# Altium schematic symbol library Controller-RK3562.SCHLIB: 538 symbols (part 3 of 5)
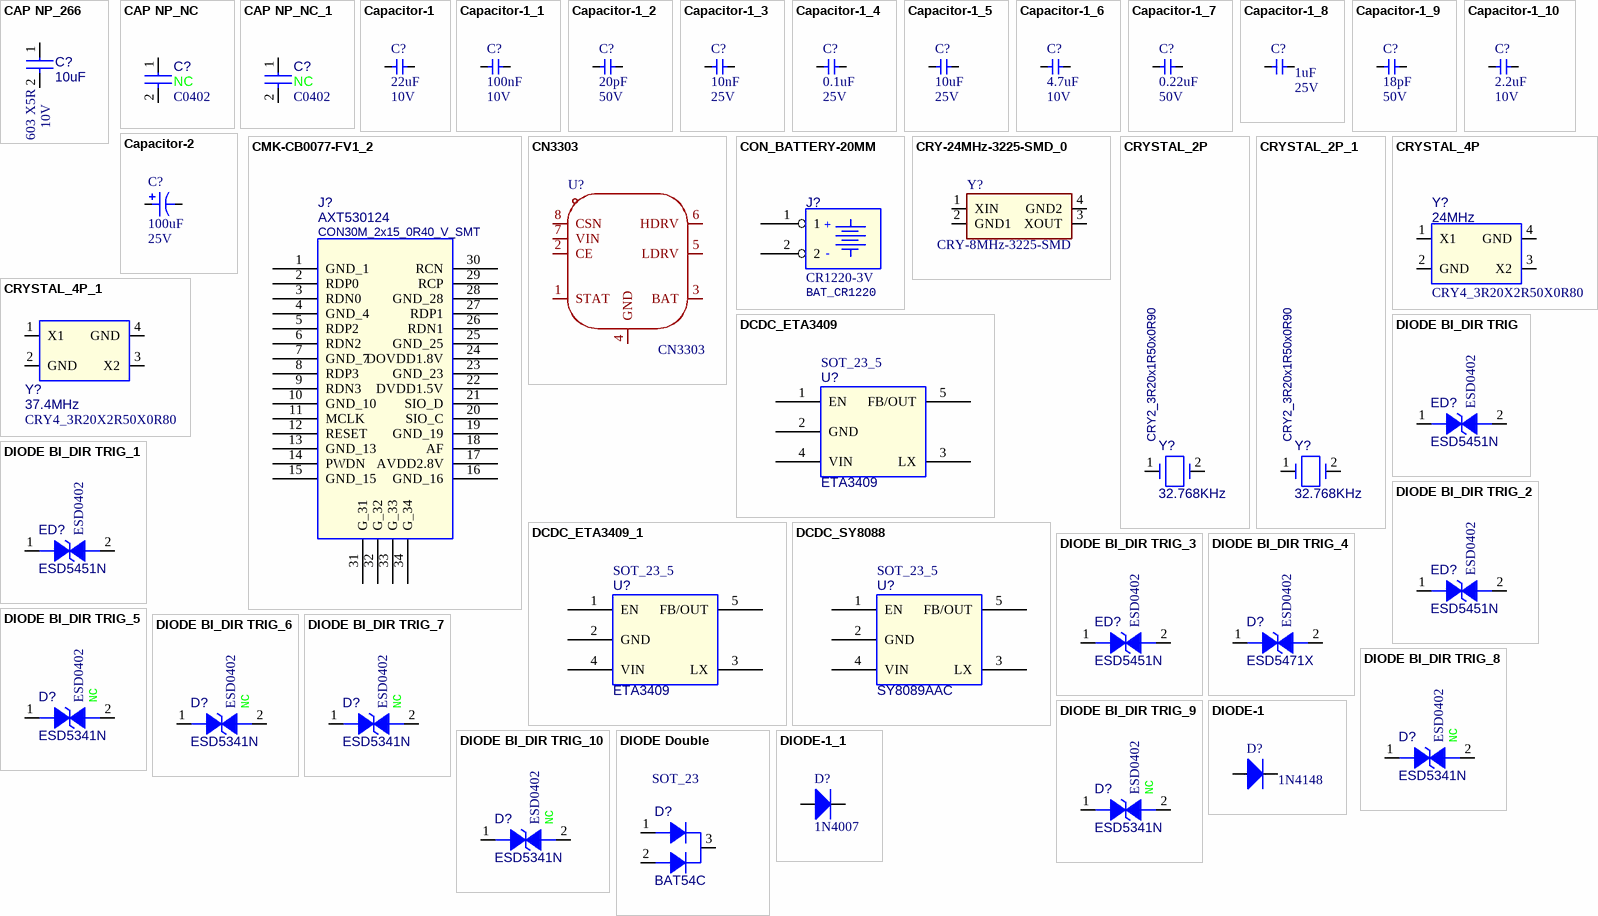
[diagram p22: symbols CAP NP_266 to DIODE-1_1]

## Capacitor-1_5
designator C?, comment 10uF  VoltageRate: 25V
ManufacturingPartNumber: *; Manufacturer: *; SupplierPartNumber: *; Supplier: *
footprint CAP-0402
footprint CAP-0805-S
footprint CAP-0603
pins: 1, 2

## Capacitor-1_6
designator C?, comment 4.7uF  VoltageRate: 10V
ManufacturingPartNumber: *; Manufacturer: *; SupplierPartNumber: *; Supplier: *
footprint CAP-0402
footprint CAP-0805-S
footprint CAP-0603
pins: 1, 2

## Capacitor-1_7
designator C?, comment 0.22uF  VoltageRate: 50V
ManufacturingPartNumber: *; Manufacturer: *; SupplierPartNumber: *; Supplier: *
footprint CAP-0402
footprint CAP-0805-S
footprint CAP-0603
pins: 1, 2

## Capacitor-1_8
designator C?, comment 1uF  VoltageRate: 25V
ManufacturingPartNumber: *; Manufacturer: *; SupplierPartNumber: *; Supplier: *
footprint CAP-0402
footprint CAP-0805-S
footprint CAP-0603
pins: 1, 2

## Capacitor-1_9
designator C?, comment 18pF  VoltageRate: 50V
ManufacturingPartNumber: *; Manufacturer: *; SupplierPartNumber: *; Supplier: *
footprint CAP-0402
footprint CAP-0805-S
footprint CAP-0603
pins: 1, 2

## Capacitor-1_10
designator C?, comment 2.2uF  VoltageRate: 10V
ManufacturingPartNumber: *; Manufacturer: *; SupplierPartNumber: *; Supplier: *
footprint CAP-0402
footprint CAP-0805-S
footprint CAP-0603
pins: 1, 2

## Capacitor-2
designator C?, comment 100uF  VoltageRate: 25V
ManufacturingPartNumber: *; Manufacturer: *; SupplierPartNumber: *; Supplier: *
footprint CAP-SMD_BD6.3-L6.6-W6.6-FD
footprint CAP-0805-S
footprint CAP-0603
pins: 1, 2

## CMK-CB0077-FV1_2
designator J?, comment AXT530124  PCB Footprint: CON30M_2x15_0R40_V_SMT
Rockchips内部通用双排30PIN for MIPI CSI摄像头接口；; Part Reference: J4500; Manufacturer: Panasonic; Priority: A; Value: AXT530124; RK PN: AXT530124; Part Type: Camera Connector; Manufacturer Part Number: AXT530124; Created by: JJJ
footprint CONN-SMD_30P-P0.40_AXT530124
footprint CON30M_2x15_0R40_V_SMT
pins: 1 GND_1, 2 RDP0, 3 RDN0, 4 GND_4, 5 RDP2, 6 RDN2, 7 GND_7, 8 RDP3, 9 RDN3, 10 GND_10, 11 MCLK, 12 RESET, 13 GND_13, 14 PWDN, 15 GND_15, 16 GND_16, 17 AVDD2.8V, 18 AF, 19 GND_19, 20 SIO_C, 21 SIO_D, 22 DVDD1.5V, 23 GND_23, 24 DOVDD1.8V, 25 GND_25, 26 RDN1, 27 RDP1, 28 GND_28, 29 RCP, 30 RCN, 31 G_31, 32 G_32, 33 G_33, 34 G_34

## CN3303
designator U?
ManufacturingPartNumber: *; Manufacturer: *; SupplierPartNumber: *; Supplier: *; VoltageRate: *
footprint SOP-8_L4.9-W3.9-P1.27-LS6.0-BL-1
pins: 1 STAT, 2 CE, 3 BAT, 4 GND, 5 LDRV, 6 HDRV, 7 VIN, 8 CSN

## CON_BATTERY-20MM
designator J?, comment CR1220-3V  PCB Footprint: BAT_CR1220
Part Reference: J2200; Value: CR1220-3V
footprint BATTERY-20MM
footprint BAT_CR1220
pins: 1, 2
text: +; -

## CRY-24MHz-3225-SMD_0
designator Y?, comment CRY-8MHz-3225-SMD
ManufacturingPartNumber: *; Manufacturer: *; SupplierPartNumber: *; Supplier: *; VoltageRate: *
footprint X4B250_320H120_SMD
pins: 1 XIN, 2 GND1, 3 XOUT, 4 GND2

## CRYSTAL_2P
designator Y?, comment 32.768KHz  PCB Footprint: CRY2_3R20x1R50x0R90
无源晶振，32.768KHz,±20ppm，12.5pF; Part Reference: Y2100; Manufacturer: TKD(泰晶); RK PN: SF-3215; Priority: A; Value: 32.768KHz; Part Type: CRYSTAL; Manufacturer PN: SF-3215; Created by: YWQ
footprint CRY2_3R20x1R50x0R90
pins: 1, 2

## CRYSTAL_2P_1
designator Y?, comment 32.768KHz  PCB Footprint: CRY2_3R20x1R50x0R90
无源晶振，32.768KHz,±20ppm，12.5pF; Part Reference: Y2200; Manufacturer: TKD(泰晶); RK PN: SF-3215; Priority: A; Value: 32.768KHz; Part Type: CRYSTAL; Manufacturer PN: SF-3215; Created by: YWQ
footprint CRY2_3R20x1R50x0R90
pins: 1, 2

## CRYSTAL_4P
designator Y?, comment 24MHz  PCB Footprint: CRY4_3R20X2R50X0R80
无源晶振，24M，3225,±10ppm，8pF，Hosonic; Part Reference: Y1200; Manufacturer PN: E3SB24.0000F08E11; Manufacturer: Hosonic(鸿星电子); Priority: A; Value: 24MHz; Created by: JJJ; Part Type: CRYSTAL; RK PN: E3SB24.0000F08E11; ClassName: RK
footprint CRY4_3R20X2R50X0R80
footprint CRY4_3R20X2R50X0R80
pins: 1 X1, 2 GND (power), 3 X2, 4 GND (power)

## CRYSTAL_4P_1
designator Y?, comment 37.4MHz  PCB Footprint: CRY4_3R20X2R50X0R80
无源晶振，26M，3225,±10ppm，8pF，Hosonic; Part Reference: Y6100; Manufacturer: Hosonic(鸿星电子); Manufacturer PN: HCX-3SB26.0000; Value: 26MHz; RK PN: 26MHz_Hosonic; Priority: A; Part Type: CRYSTAL; Created by: JJJ
footprint CRY4_3R20X2R50X0R80
footprint CRY4_3R20X2R50X0R80
pins: 1 X1, 2 GND (power), 3 X2, 4 GND (power)

## DCDC_ETA3409
designator U?, comment ETA3409  PCB Footprint: SOT_23_5
3A, 1MHz Synchronous Buck Converter with 7.3V OVP; Part Reference: U2200; Manufacturer: ETA(钰泰); Priority: A; RK PN: 906000413; Value: ETA3409; Created by: JJJ; Manufacturer PN: ETA3409; Part Type: DCDC
footprint SOT_23_5
pins: 1 EN, 2 GND, 3 LX, 4 VIN, 5 FB/OUT

## DCDC_ETA3409_1
designator U?, comment ETA3409  PCB Footprint: SOT_23_5
3A, 1MHz Synchronous Buck Converter with 7.3V OVP; Part Reference: U2201; Manufacturer: ETA(钰泰); RK PN: 906000413; Priority: A; Value: ETA3409; Part Type: DCDC; Manufacturer PN: ETA3409; Created by: JJJ
footprint SOT_23_5
pins: 1 EN, 2 GND, 3 LX, 4 VIN, 5 FB/OUT

## DCDC_SY8088
designator U?, comment SY8089AAC  PCB Footprint: SOT_23_5
Part Reference: U3002; Manufacturer PN: SY8088AAC; Manufacturer: Silergy（矽力杰）; Priority: A; Value: SY8089AAC; Created by: JJJ; Part Type: DCDC; RK PN: SY8088AAC; ClassName: RK
footprint SOT_23_5
pins: 1 EN, 2 GND, 3 LX, 4 VIN, 5 FB/OUT

## DIODE BI_DIR TRIG
designator ED?, comment ESD5451N  PCB Footprint: ESD0402
1-Line, Bi-directional, Transient Voltage Suppressors.17.5pF.; Part Reference: ED7009; Manufacturer: WillSemi(韦尔半导体); Priority: A; Value: ESD5451N; Created by: JJJ; Manufacturer PN: ESD5451N; Part Type: ESD_TVS; RK PN: ESD5451N
footprint ESD0402
pins: 1, 2

## DIODE BI_DIR TRIG_1
designator ED?, comment ESD5451N  PCB Footprint: ESD0402
1-Line, Bi-directional, Transient Voltage Suppressors.17.5pF.; Part Reference: ED7008; Manufacturer: WillSemi(韦尔半导体); Priority: A; Value: ESD5451N; RK PN: ESD5451N; Part Type: ESD_TVS; Manufacturer PN: ESD5451N; Created by: JJJ
footprint ESD0402
pins: 1, 2

## DIODE BI_DIR TRIG_2
designator ED?, comment ESD5451N  PCB Footprint: ESD0402
1-Line, Bi-directional, Transient Voltage Suppressors.17.5pF.; Part Reference: ED7010; Manufacturer: WillSemi(韦尔半导体); Priority: A; Value: ESD5451N; Created by: JJJ; Manufacturer PN: ESD5451N; Part Type: ESD_TVS; RK PN: ESD5451N
footprint ESD0402
pins: 1, 2

## DIODE BI_DIR TRIG_3
designator ED?, comment ESD5451N  PCB Footprint: ESD0402
1-Line, Bi-directional, Transient Voltage Suppressors.17.5pF.; Part Reference: ED7011; Manufacturer: WillSemi(韦尔半导体); Priority: A; Value: ESD5451N; Created by: JJJ; Manufacturer PN: ESD5451N; Part Type: ESD_TVS; RK PN: ESD5451N
footprint ESD0402
pins: 1, 2

## DIODE BI_DIR TRIG_4
designator D?, comment ESD5471X  PCB Footprint: ESD0402
1-Line, Bi-directional, Transient Voltage Suppressors.9pF.; Part Reference: D4200; Manufacturer: WillSemi(韦尔半导体); Priority: A; Value: ESD5471X; Created by: JJJ; Manufacturer PN: ESD5471X; Part Type: ESD_TVS; RK PN: ESD5471X
footprint ESD0402
pins: 1, 2

## DIODE BI_DIR TRIG_5
designator D?, comment ESD5341N  PCB Footprint: ESD0402  option: NC
1-Line, Bi-directional, Transient Voltage Suppressors.1pF.; Part Reference: D4201; Manufacturer: WillSemi(韦尔半导体); Priority: A; Value: ESD5341N; RK PN: ESD5341N; Part Type: ESD_TVS; Manufacturer PN: ESD5341N; Created by: JJJ
footprint ESD0402
pins: 1, 2

## DIODE BI_DIR TRIG_6
designator D?, comment ESD5341N  PCB Footprint: ESD0402  option: NC
1-Line, Bi-directional, Transient Voltage Suppressors.1pF.; Part Reference: D4202; Manufacturer: WillSemi(韦尔半导体); Priority: A; Value: ESD5341N; RK PN: ESD5341N; Part Type: ESD_TVS; Manufacturer PN: ESD5341N; Created by: JJJ
footprint ESD0402
pins: 1, 2

## DIODE BI_DIR TRIG_7
designator D?, comment ESD5341N  PCB Footprint: ESD0402  option: NC
1-Line, Bi-directional, Transient Voltage Suppressors.1pF.; Part Reference: D4203; Manufacturer: WillSemi(韦尔半导体); Priority: A; Value: ESD5341N; Created by: JJJ; Manufacturer PN: ESD5341N; Part Type: ESD_TVS; RK PN: ESD5341N
footprint ESD0402
pins: 1, 2

## DIODE BI_DIR TRIG_8
designator D?, comment ESD5341N  PCB Footprint: ESD0402  option: NC
1-Line, Bi-directional, Transient Voltage Suppressors.1pF.; Part Reference: D4204; Manufacturer: WillSemi(韦尔半导体); Priority: A; Value: ESD5341N; Created by: JJJ; Manufacturer PN: ESD5341N; Part Type: ESD_TVS; RK PN: ESD5341N
footprint ESD0402
pins: 1, 2

## DIODE BI_DIR TRIG_9
designator D?, comment ESD5341N  PCB Footprint: ESD0402  option: NC
1-Line, Bi-directional, Transient Voltage Suppressors.1pF.; Part Reference: D4205; Manufacturer: WillSemi(韦尔半导体); Priority: A; Value: ESD5341N; Created by: JJJ; Manufacturer PN: ESD5341N; Part Type: ESD_TVS; RK PN: ESD5341N
footprint ESD0402
pins: 1, 2

## DIODE BI_DIR TRIG_10
designator D?, comment ESD5341N  PCB Footprint: ESD0402  option: NC
1-Line, Bi-directional, Transient Voltage Suppressors.1pF.; Part Reference: D4206; Manufacturer: WillSemi(韦尔半导体); Priority: A; Value: ESD5341N; Created by: JJJ; Manufacturer PN: ESD5341N; Part Type: ESD_TVS; RK PN: ESD5341N
footprint ESD0402
pins: 1, 2

## DIODE Double
designator D?, comment BAT54C  PCB Footprint: SOT_23
Dual Schottky barrier，BAT54C SOT-23 Schottky Barrier; Part Reference: D2200; Manufacturer: 长电; Priority: A; Value: BAT54C; RK PN: BAT54C; Part Type: Schottky rectifier; Manufacturer PN: BAT54C; Created by: JJJ
footprint SOT_23
pins: 1 A1, 2 A2, 3 K

## DIODE-1
designator D?, comment 1N4148
ManufacturingPartNumber: *; Manufacturer: *; SupplierPartNumber: *; Supplier: *; VoltageRate: *
footprint SOD123 (SOD123; Chip Diode; Body  2.7 x 1.6 mm (LxW typ))
pins: 1 A, 2 K

## DIODE-1_1
designator D?, comment 1N4007
ManufacturingPartNumber: *; Manufacturer: *; SupplierPartNumber: *; Supplier: *; VoltageRate: *
footprint SOD123 (SOD123; Chip Diode; Body  2.7 x 1.6 mm (LxW typ))
pins: 1 A, 2 K

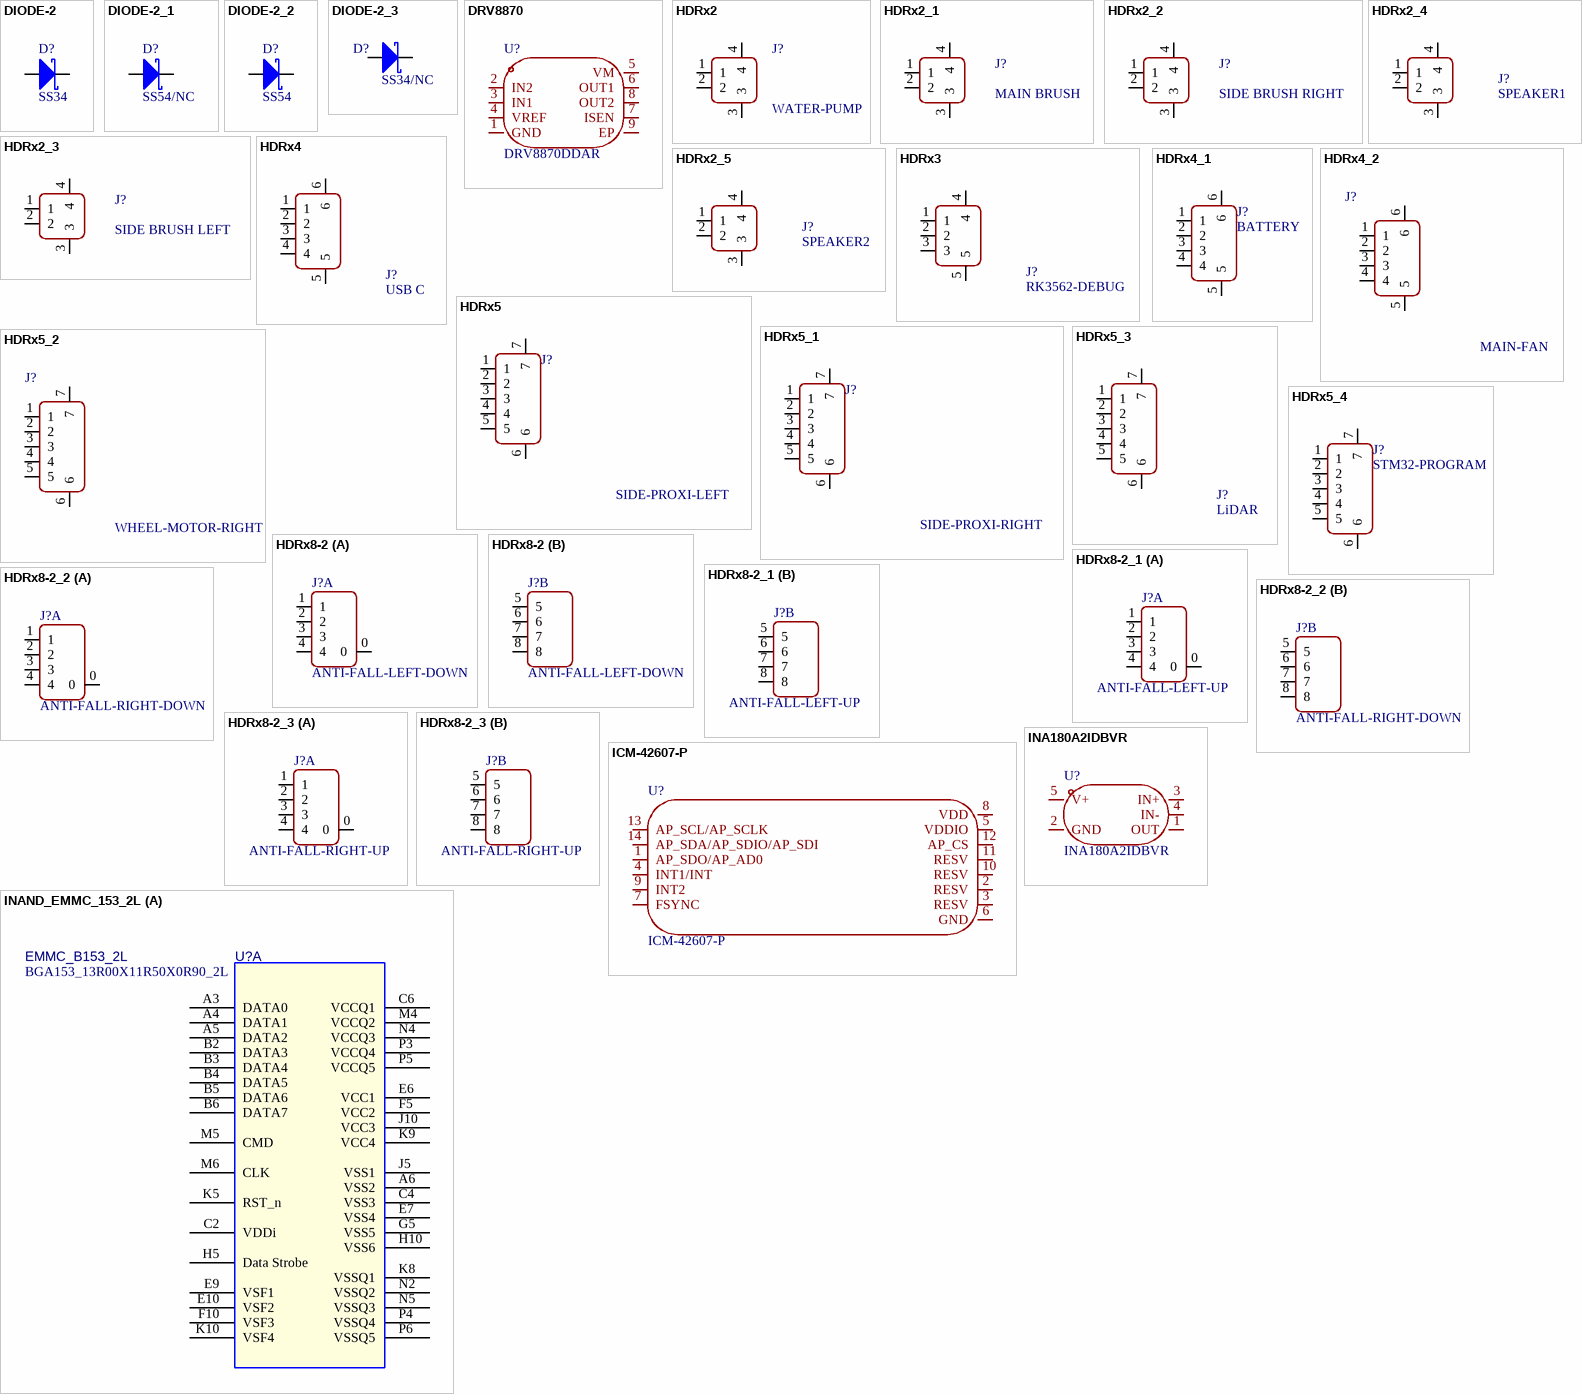
[diagram p8: symbols DIODE-2 to INAND_EMMC_153_2L]

## DIODE-2
designator D?, comment SS34
ManufacturingPartNumber: *; Manufacturer: *; SupplierPartNumber: *; Supplier: *; VoltageRate: *
footprint SMA
pins: 1 A, 2 K

## DIODE-2_1
designator D?, comment SS54/NC
ManufacturingPartNumber: *; Manufacturer: *; SupplierPartNumber: *; Supplier: *; VoltageRate: *
footprint SMB_L4.3-W3.6-LS5.4-RD
pins: 1 A, 2 K

## DIODE-2_2
designator D?, comment SS54
ManufacturingPartNumber: *; Manufacturer: *; SupplierPartNumber: *; Supplier: *; VoltageRate: *
footprint SMB_L4.3-W3.6-LS5.4-RD
pins: 1 A, 2 K

## DIODE-2_3
designator D?, comment SS34/NC
ManufacturingPartNumber: *; Manufacturer: *; SupplierPartNumber: *; Supplier: *; VoltageRate: *
footprint SMA
pins: 1 A, 2 K

## DRV8870
designator U?, comment DRV8870DDAR
ManufacturingPartNumber: *; Manufacturer: *; SupplierPartNumber: *; Supplier: *; VoltageRate: *
footprint HSOP-8_L5.0-W4.0-P1.27-LS6.2-BL-EP
pins: 1 GND, 2 IN2, 3 IN1, 4 VREF, 5 VM, 6 OUT1, 7 ISEN, 8 OUT2, 9 EP

## HDRx2
designator J?, comment WATER-PUMP
ZX-ZH1.5-2PWT; ManufacturingPartNumber: *; Manufacturer: *; SupplierPartNumber: *; Supplier: *; VoltageRate: *
footprint CONN-SMD_2P-P1.50_ZX-ZH1.5-2PWT
pins: 1, 2, 3, 4

## HDRx2_1
designator J?, comment MAIN BRUSH
ZX-ZH1.5-2PWT; ManufacturingPartNumber: *; Manufacturer: *; SupplierPartNumber: *; Supplier: *; VoltageRate: *
footprint CONN-SMD_2P-P2.00_XUNPU_WAFER-PH2.0-2PWB
pins: 1, 2, 3, 4

## HDRx2_2
designator J?, comment SIDE BRUSH RIGHT
ManufacturingPartNumber: *; Manufacturer: *; SupplierPartNumber: *; Supplier: *; VoltageRate: *
footprint CONN-SMD_2P-P1.50_ZX-ZH1.5-2PWT
pins: 1, 2, 3, 4

## HDRx2_3
designator J?, comment SIDE BRUSH LEFT
ManufacturingPartNumber: *; Manufacturer: *; SupplierPartNumber: *; Supplier: *; VoltageRate: *
footprint CONN-SMD_2P-P1.50_ZX-ZH1.5-2PWT
pins: 1, 2, 3, 4

## HDRx2_4
designator J?, comment SPEAKER1
ManufacturingPartNumber: *; Manufacturer: *; SupplierPartNumber: *; Supplier: *; VoltageRate: *
pins: 1, 2, 3, 4

## HDRx2_5
designator J?, comment SPEAKER2
ManufacturingPartNumber: *; Manufacturer: *; SupplierPartNumber: *; Supplier: *; VoltageRate: *
footprint CONN-SMD_2P-P1.00_HX-1.0-2P-WT
pins: 1, 2, 3, 4

## HDRx3
designator J?, comment RK3562-DEBUG
ManufacturingPartNumber: *; Manufacturer: *; SupplierPartNumber: *; Supplier: *; VoltageRate: *
footprint MHDR1X3 (Connector; Header; 3 Position)
pins: 1, 2, 3, 4, 5

## HDRx4
designator J?, comment USB C
ManufacturingPartNumber: *; Manufacturer: *; SupplierPartNumber: *; Supplier: *; VoltageRate: *
footprint CONN-SMD_4P-P2.00_XUNPU_WAFER-PH2.0-4PWB
pins: 1, 2, 3, 4, 5, 6

## HDRx4_1
designator J?, comment BATTERY
ManufacturingPartNumber: *; Manufacturer: *; SupplierPartNumber: *; Supplier: *; VoltageRate: *
footprint CONN-SMD_4P-P2.00_XUNPU_WAFER-PH2.0-4PWB
pins: 1, 2, 3, 4, 5, 6

## HDRx4_2
designator J?, comment MAIN-FAN
ManufacturingPartNumber: *; Manufacturer: *; SupplierPartNumber: *; Supplier: *; VoltageRate: *
footprint CONN-SMD_4P-P2.00_XUNPU_WAFER-PH2.0-4PWB
pins: 1, 2, 3, 4, 5, 6

## HDRx5
designator J?, comment SIDE-PROXI-LEFT
ZX-ZH1.5-5PWT; ManufacturingPartNumber: *; Manufacturer: *; SupplierPartNumber: *; Supplier: *; VoltageRate: *
footprint CONN-SMD_5P-P1.50_ZX-ZH1.5-5PWT
pins: 1, 2, 3, 4, 5, 6, 7

## HDRx5_1
designator J?, comment SIDE-PROXI-RIGHT
ZX-ZH1.5-5PWT; ManufacturingPartNumber: *; Manufacturer: *; SupplierPartNumber: *; Supplier: *; VoltageRate: *
footprint CONN-SMD_5P-P1.50_ZX-ZH1.5-5PWT
pins: 1, 2, 3, 4, 5, 6, 7

## HDRx5_2
designator J?, comment WHEEL-MOTOR-RIGHT
ManufacturingPartNumber: *; Manufacturer: *; SupplierPartNumber: *; Supplier: *; VoltageRate: *
footprint CONN-SMD_5P-P1.50_ZX-ZH1.5-5PWT
pins: 1, 2, 3, 4, 5, 6, 7

## HDRx5_3
designator J?, comment LiDAR
WAFER-GH1.25-5PWB; ManufacturingPartNumber: *; Manufacturer: *; SupplierPartNumber: *; Supplier: *; VoltageRate: *
footprint CONN-SMD_5P-P1.25_XUNPU_WAFER-GH1.25-5PWB
pins: 1, 2, 3, 4, 5, 6, 7

## HDRx5_4
designator J?, comment STM32-PROGRAM
ManufacturingPartNumber: *; Manufacturer: *; SupplierPartNumber: *; Supplier: *; VoltageRate: *
footprint HDR1X5 (Connector; Header; 5 Position)
pins: 1, 2, 3, 4, 5, 6, 7

## HDRx8-2
designator J?, comment ANTI-FALL-LEFT-DOWN
ZX-ZH1.5-8PWT; Manufacturer: *; SupplierPartNumber: *; Supplier: *; VoltageRate: *
footprint CONN-SMD_8P-P1.50_ZX-ZH1.5-8PWT
part A pins: 0, 1, 2, 3, 4
part B pins: 5, 6, 7, 8

## HDRx8-2_1
designator J?, comment ANTI-FALL-LEFT-UP
ZX-ZH1.5-8PWT; Manufacturer: *; SupplierPartNumber: *; Supplier: *; VoltageRate: *
footprint CONN-SMD_8P-P1.50_ZX-ZH1.5-8PWT
part A pins: 0, 1, 2, 3, 4
part B pins: 5, 6, 7, 8

## HDRx8-2_2
designator J?, comment ANTI-FALL-RIGHT-DOWN
ZX-ZH1.5-8PWT; Manufacturer: *; SupplierPartNumber: *; Supplier: *; VoltageRate: *
footprint CONN-SMD_8P-P1.50_ZX-ZH1.5-8PWT
part A pins: 0, 1, 2, 3, 4
part B pins: 5, 6, 7, 8

## HDRx8-2_3
designator J?, comment ANTI-FALL-RIGHT-UP
ZX-ZH1.5-8PWT; Manufacturer: *; SupplierPartNumber: *; Supplier: *; VoltageRate: *
footprint CONN-SMD_8P-P1.50_ZX-ZH1.5-8PWT
part A pins: 0, 1, 2, 3, 4
part B pins: 5, 6, 7, 8

## ICM-42607-P
designator U?
ManufacturingPartNumber: *; Manufacturer: *; SupplierPartNumber: *; Supplier: *; VoltageRate: *
footprint LGA-14_L3.0-W2.5-P0.50-TL_QMI8658A
pins: 1 AP_SDO/AP_AD0, 2 RESV, 3 RESV, 4 INT1/INT, 5 VDDIO, 6 GND, 7 FSYNC, 8 VDD, 9 INT2, 10 RESV, 11 RESV, 12 AP_CS, 13 AP_SCL/AP_SCLK, 14 AP_SDA/AP_SDIO/AP_SDI

## INA180A2IDBVR
designator U?
ManufacturingPartNumber: *; Manufacturer: *; SupplierPartNumber: *; Supplier: *; VoltageRate: *
footprint SOT_23_5
pins: 1 OUT, 2 GND, 3 IN+, 4 IN-, 5 V+

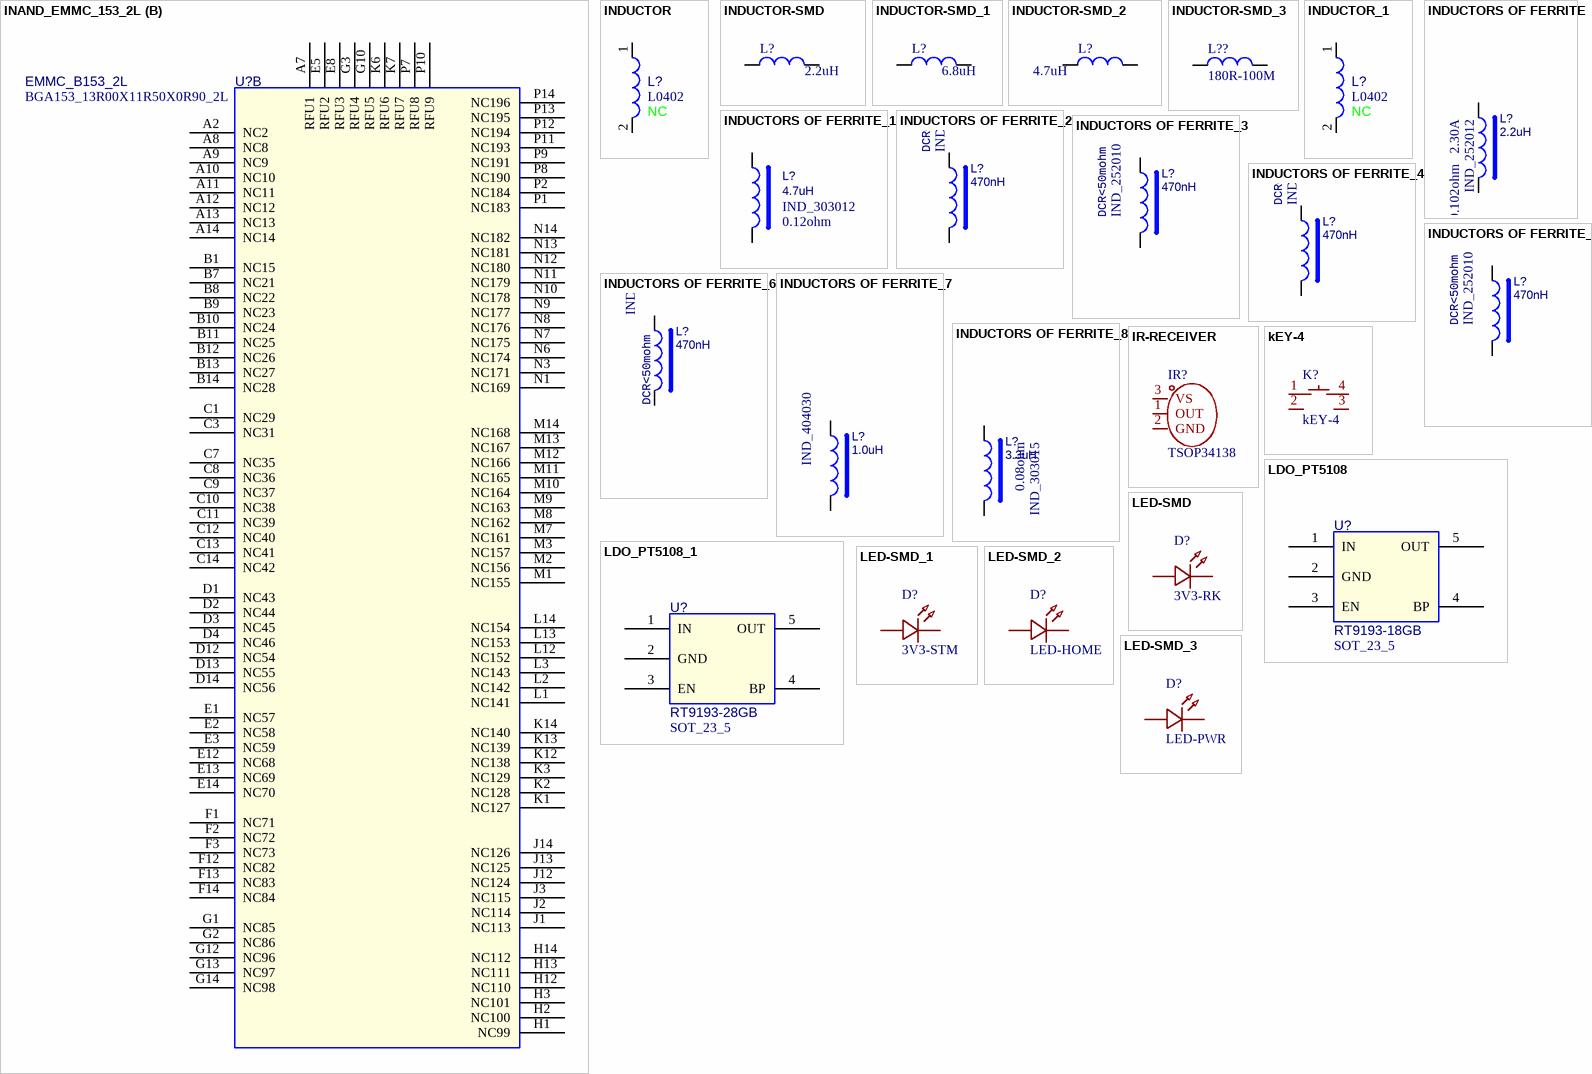
[diagram p9: symbols INAND_EMMC_153_2L to LED-SMD_3]

## INAND_EMMC_153_2L
designator U?, comment EMMC_B153_2L  PCB Footprint: BGA153_13R00X11R50X0R90_2L
EMMC_B153_2L,更好的满足工艺需求，Fanout方式部分走线跨接再球位上，挖除A1\C5球位; Part Reference: U4000; Priority: A; Value: EMMC_B153_2L; Created by: YWQ; Part Type: NAND_FLASH; RK PN: EMMC_B153_2L; ClassName: RK
footprint FBGA-153_L13.0-W11.5-P0.50_KLMAG1JETD-B041
part A pins: A3 DATA0, A4 DATA1, A5 DATA2, A6 VSS2, B2 DATA3, B3 DATA4, B4 DATA5, B5 DATA6, B6 DATA7, C2 VDDi, C4 VSS3, C6 VCCQ1, E6 VCC1, E7 VSS4, E9 VSF1, E10 VSF2, F5 VCC2, F10 VSF3, G5 VSS5, H5 Data Strobe, H10 VSS6, J5 VSS1, J10 VCC3, K5 RST_n, K8 VSSQ1, K9 VCC4, K10 VSF4, M4 VCCQ2, M5 CMD, M6 CLK, N2 VSSQ2, N4 VCCQ3, N5 VSSQ3, P3 VCCQ4, P4 VSSQ4, P5 VCCQ5, P6 VSSQ5
part B pins: A2 NC2, A7 RFU1, A8 NC8, A9 NC9, A10 NC10, A11 NC11, A12 NC12, A13 NC13, A14 NC14, B1 NC15, B7 NC21, B8 NC22, B9 NC23, B10 NC24, B11 NC25, B12 NC26, B13 NC27, B14 NC28, C1 NC29, C3 NC31, C7 NC35, C8 NC36, C9 NC37, C10 NC38, C11 NC39, C12 NC40, C13 NC41, C14 NC42, D1 NC43, D2 NC44, D3 NC45, D4 NC46, D12 NC54, D13 NC55, D14 NC56, E1 NC57, E2 NC58, E3 NC59, E5 RFU2, E8 RFU3, E12 NC68, E13 NC69, E14 NC70, F1 NC71, F2 NC72, F3 NC73, F12 NC82, F13 NC83, F14 NC84, G1 NC85, G2 NC86, G3 RFU4, G10 RFU5, G12 NC96, G13 NC97, G14 NC98, H1 NC99, H2 NC100, H3 NC101, H12 NC110, H13 NC111, H14 NC112, J1 NC113, J2 NC114, J3 NC115, J12 NC124, J13 NC125, J14 NC126, K1 NC127, K2 NC128, K3 NC129, K6 RFU6, K7 RFU7, K12 NC138, K13 NC139, K14 NC140, L1 NC141, L2 NC142, L3 NC143, L12 NC152, L13 NC153, L14 NC154, M1 NC155, M2 NC156, M3 NC157, M7 NC161, M8 NC162, M9 NC163, M10 NC164, M11 NC165, M12 NC166, M13 NC167, M14 NC168, N1 NC169, N3 NC171, N6 NC174, N7 NC175, N8 NC176, N9 NC177, N10 NC178, N11 NC179, N12 NC180, N13 NC181, N14 NC182, P1 NC183, P2 NC184, P7 RFU8, P8 NC190, P9 NC191, P10 RFU9, P11 NC193, P12 NC194, P13 NC195, P14 NC196

## INDUCTOR
designator L?, comment NC  PCB Footprint: L0402
Did Not Place.; Part Reference: L6100; RK PN: DNPL0402; Priority: A; Value: NC; Part Type: IND; Created by: JJJ
footprint L0402 (R0402)
pins: 1, 2

## INDUCTOR-SMD
designator L?, comment 2.2uH
FXL0420-2R2-M; ManufacturingPartNumber: *; Manufacturer: *; SupplierPartNumber: *; Supplier: *; VoltageRate: *
footprint IND-SMD_L4.4-W4.2
pins: 1, 2

## INDUCTOR-SMD_1
designator L?, comment 6.8uH
FXL0630-6R8-M; ManufacturingPartNumber: *; Manufacturer: *; SupplierPartNumber: *; Supplier: *; VoltageRate: *
footprint IND-SMD_L7.0-W6.6
pins: 1, 2

## INDUCTOR-SMD_2
designator L?, comment 4.7uH
FXL0630-4R7-M; ManufacturingPartNumber: *; Manufacturer: *; SupplierPartNumber: *; Supplier: *; VoltageRate: *
footprint IND-SMD_L7.0-W6.6
pins: 1, 2

## INDUCTOR-SMD_3
designator L??, comment 180R-100M
ManufacturingPartNumber: *; Manufacturer: *; SupplierPartNumber: *; Supplier: *; VoltageRate: *
pins: 1, 2

## INDUCTOR_1
designator L?, comment NC  PCB Footprint: L0402
Did Not Place.; Part Reference: L6101; Priority: A; RK PN: DNPL0402; Value: NC; Created by: JJJ; Part Type: IND
footprint L0402 (R0402)
pins: 1, 2

## INDUCTORS OF FERRITE
designator L?, comment 2.2uH  PCB Footprint: IND_252012  Isat: 2.30A  DC Resistor: 0.102ohm
Power Inductor,2.2uH,20%,IND_252012; Part Reference: L3001; Manufacturer PN: VLS252012HBX-2R2M; Manufacturer: TDK; Resonace frequency: 1MHz; Irms: 2.04A; Priority: A; Value: 2.2uH; Created by: JJJ; Tolerance: 20%; Part Type: POWER_IND; RK PN: VLS252012HBX-2R2M; ClassName: RK
footprint IND_252012
pins: 1, 2

## INDUCTORS OF FERRITE_1
designator L?, comment 4.7uH  PCB Footprint: IND_303012  DC Resistor: 0.12ohm
Power Inductor,4.7uH,0.2,IND_303012; Part Reference: L6102; Manufacturer: sunlord; Isat: 0.90A; RK PN: SWPA3012S4R7MT; Priority: A; Tolerance: 20%; Irms: 1.24A; Resonace frequency: 61M; Value: 4.7uH; Part Type: POWER_IND; Manufacturer PN: SWPA3012S4R7MT; Created by: YTL
footprint IND_303015
pins: 1, 2

## INDUCTORS OF FERRITE_2
designator L?, comment 470nH  PCB Footprint: IND_252010  option: DCR<50mohm
Power Inductor,470nH,0.2,IND_252010; Part Reference: L2100; Manufacturer PN: VLS252010HBX-R47M; Manufacturer: TDK; Isat: 4.53A; DC Resistor: 0.035ohm; Resonace frequency: 1MHz; Irms: 3.32A; Tolerance: 20%; Priority: A; Value: 470nH; Created by: CDH; Part Type: POWER_IND; RK PN: VLS252010HBX-R47M
footprint IND_252010
pins: 1, 2

## INDUCTORS OF FERRITE_3
designator L?, comment 470nH  PCB Footprint: IND_252010  option: DCR<50mohm
Power Inductor,470nH,0.2,IND_252010; Part Reference: L2101; Manufacturer PN: VLS252010HBX-R47M; Manufacturer: TDK; Isat: 4.53A; DC Resistor: 0.035ohm; Resonace frequency: 1MHz; Irms: 3.32A; Tolerance: 20%; Priority: A; Value: 470nH; Created by: CDH; Part Type: POWER_IND; RK PN: VLS252010HBX-R47M
footprint IND_252010
pins: 1, 2

## INDUCTORS OF FERRITE_4
designator L?, comment 470nH  PCB Footprint: IND_252010  option: DCR<50mohm
Power Inductor,470nH,0.2,IND_252010; Part Reference: L2102; Manufacturer PN: VLS252010HBX-R47M; Manufacturer: TDK; Isat: 4.53A; DC Resistor: 0.035ohm; Resonace frequency: 1MHz; Irms: 3.32A; Tolerance: 20%; Priority: A; Value: 470nH; Created by: CDH; Part Type: POWER_IND; RK PN: VLS252010HBX-R47M
footprint IND_252010
pins: 1, 2

## INDUCTORS OF FERRITE_5
designator L?, comment 470nH  PCB Footprint: IND_252010  option: DCR<50mohm
Power Inductor,470nH,0.2,IND_252010; Part Reference: L2103; Manufacturer PN: VLS252010HBX-R47M; Manufacturer: TDK; Isat: 4.53A; DC Resistor: 0.035ohm; Resonace frequency: 1MHz; Irms: 3.32A; Tolerance: 20%; Priority: A; Value: 470nH; Created by: CDH; Part Type: POWER_IND; RK PN: VLS252010HBX-R47M
footprint IND_252010
pins: 1, 2

## INDUCTORS OF FERRITE_6
designator L?, comment 470nH  PCB Footprint: IND_252010  option: DCR<50mohm
Power Inductor,470nH,0.2,IND_252010; Part Reference: L2104; Manufacturer: TDK; Isat: 4.53A; DC Resistor: 0.035ohm; RK PN: VLS252010HBX-R47M; Priority: A; Tolerance: 20%; Irms: 3.32A; Resonace frequency: 1MHz; Value: 470nH; Part Type: POWER_IND; Manufacturer PN: VLS252010HBX-R47M; Created by: CDH
footprint IND_252010
pins: 1, 2

## INDUCTORS OF FERRITE_7
designator L?, comment 1.0uH  PCB Footprint: IND_404030
Power Inductor,1.0uH,0.3,IND_404030; Part Reference: L2200; Manufacturer PN: SWPA4030S1R0NT; Manufacturer: sunlord; Isat: 5.26A; DC Resistor: 0.014ohm; Resonace frequency: 70M; Irms: 4.15A; Tolerance: 30%; Priority: A; Value: 1.0uH; Created by: YTL; Part Type: POWER_IND; RK PN: SWPA4030S1R0NT
footprint IND_404030
pins: 1, 2

## INDUCTORS OF FERRITE_8
designator L?, comment 3.3uH  PCB Footprint: IND_303015  DC Resistor: 0.08ohm
Power Inductor,3.3uH,0.2,IND_303015; Part Reference: L2201; Manufacturer PN: SWPA3015S3R3MT; Manufacturer: sunlord; Isat: 1.32A; Resonace frequency: 68M; Irms: 1.36A; Tolerance: 20%; Priority: A; Value: 3.3uH; Created by: YTL; Part Type: POWER_IND; RK PN: SWPA3015S3R3MT
footprint IND_303015
pins: 1, 2

## IR-RECEIVER
designator IR?, comment TSOP34138
ManufacturingPartNumber: *; Manufacturer: *; SupplierPartNumber: *; Supplier: *; VoltageRate: *
footprint SENSOR-TH_TSOP32138
pins: 1 OUT, 2 GND, 3 VS

## kEY-4
designator K?
ManufacturingPartNumber: TS36CA-0.6 250gf 031; Manufacturer: SHOU HAN(首韩); SupplierPartNumber: C2906288; Supplier: LCSC; VoltageRate: *
footprint KEY-SMD_4P-L6.0-W6.0-P4.50-LS9.0
pins: 1, 2, 3, 4

## LDO_PT5108
designator U?, comment RT9193-18GB  PCB Footprint: SOT_23_5
1.8V Output,300mA, Low Dropout, Low Noise Ultra-Fast Without Bypass Capacitor CMOS LDO Regulator; Part Reference: U2202; Manufacturer: Richtek（立錡）; Priority: A; Value: RT9193-18GB; RK PN: RT9193-18GB; Part Type: LDO; Manufacturer PN: RT9193-18GB; Created by: JJJ
footprint SOT_23_5
pins: 1 IN, 2 GND, 3 EN, 4 BP, 5 OUT

## LDO_PT5108_1
designator U?, comment RT9193-28GB  PCB Footprint: SOT_23_5
2.8V Output,300mA, Low Dropout, Low Noise Ultra-Fast Without Bypass Capacitor CMOS LDO Regulator; Part Reference: U2204; Manufacturer: Richtek（立錡）; Priority: A; Value: RT9193-28GB; RK PN: RT9193-28GB; Part Type: LDO; Manufacturer PN: RT9193-28GB; Created by: JJJ
footprint SOT_23_5
pins: 1 IN, 2 GND, 3 EN, 4 BP, 5 OUT

## LED-SMD
designator D?, comment 3V3-RK
ManufacturingPartNumber: *; Manufacturer: *; SupplierPartNumber: *; Supplier: *; VoltageRate: *
footprint LED0603-B
footprint LED0603-G
footprint LED0603-R
pins: 1, 2

## LED-SMD_1
designator D?, comment 3V3-STM
ManufacturingPartNumber: *; Manufacturer: *; SupplierPartNumber: *; Supplier: *; VoltageRate: *
footprint LED0603-B
footprint LED0603-G
footprint LED0603-R
pins: 1, 2

## LED-SMD_2
designator D?, comment LED-HOME
ManufacturingPartNumber: *; Manufacturer: *; SupplierPartNumber: *; Supplier: *; VoltageRate: *
footprint LED0603-B
footprint LED0603-G
footprint LED0603-R
pins: 1, 2

## LED-SMD_3
designator D?, comment LED-PWR
ManufacturingPartNumber: *; Manufacturer: *; SupplierPartNumber: *; Supplier: *; VoltageRate: *
footprint LED0603-B
footprint LED0603-G
footprint LED0603-R
pins: 1, 2

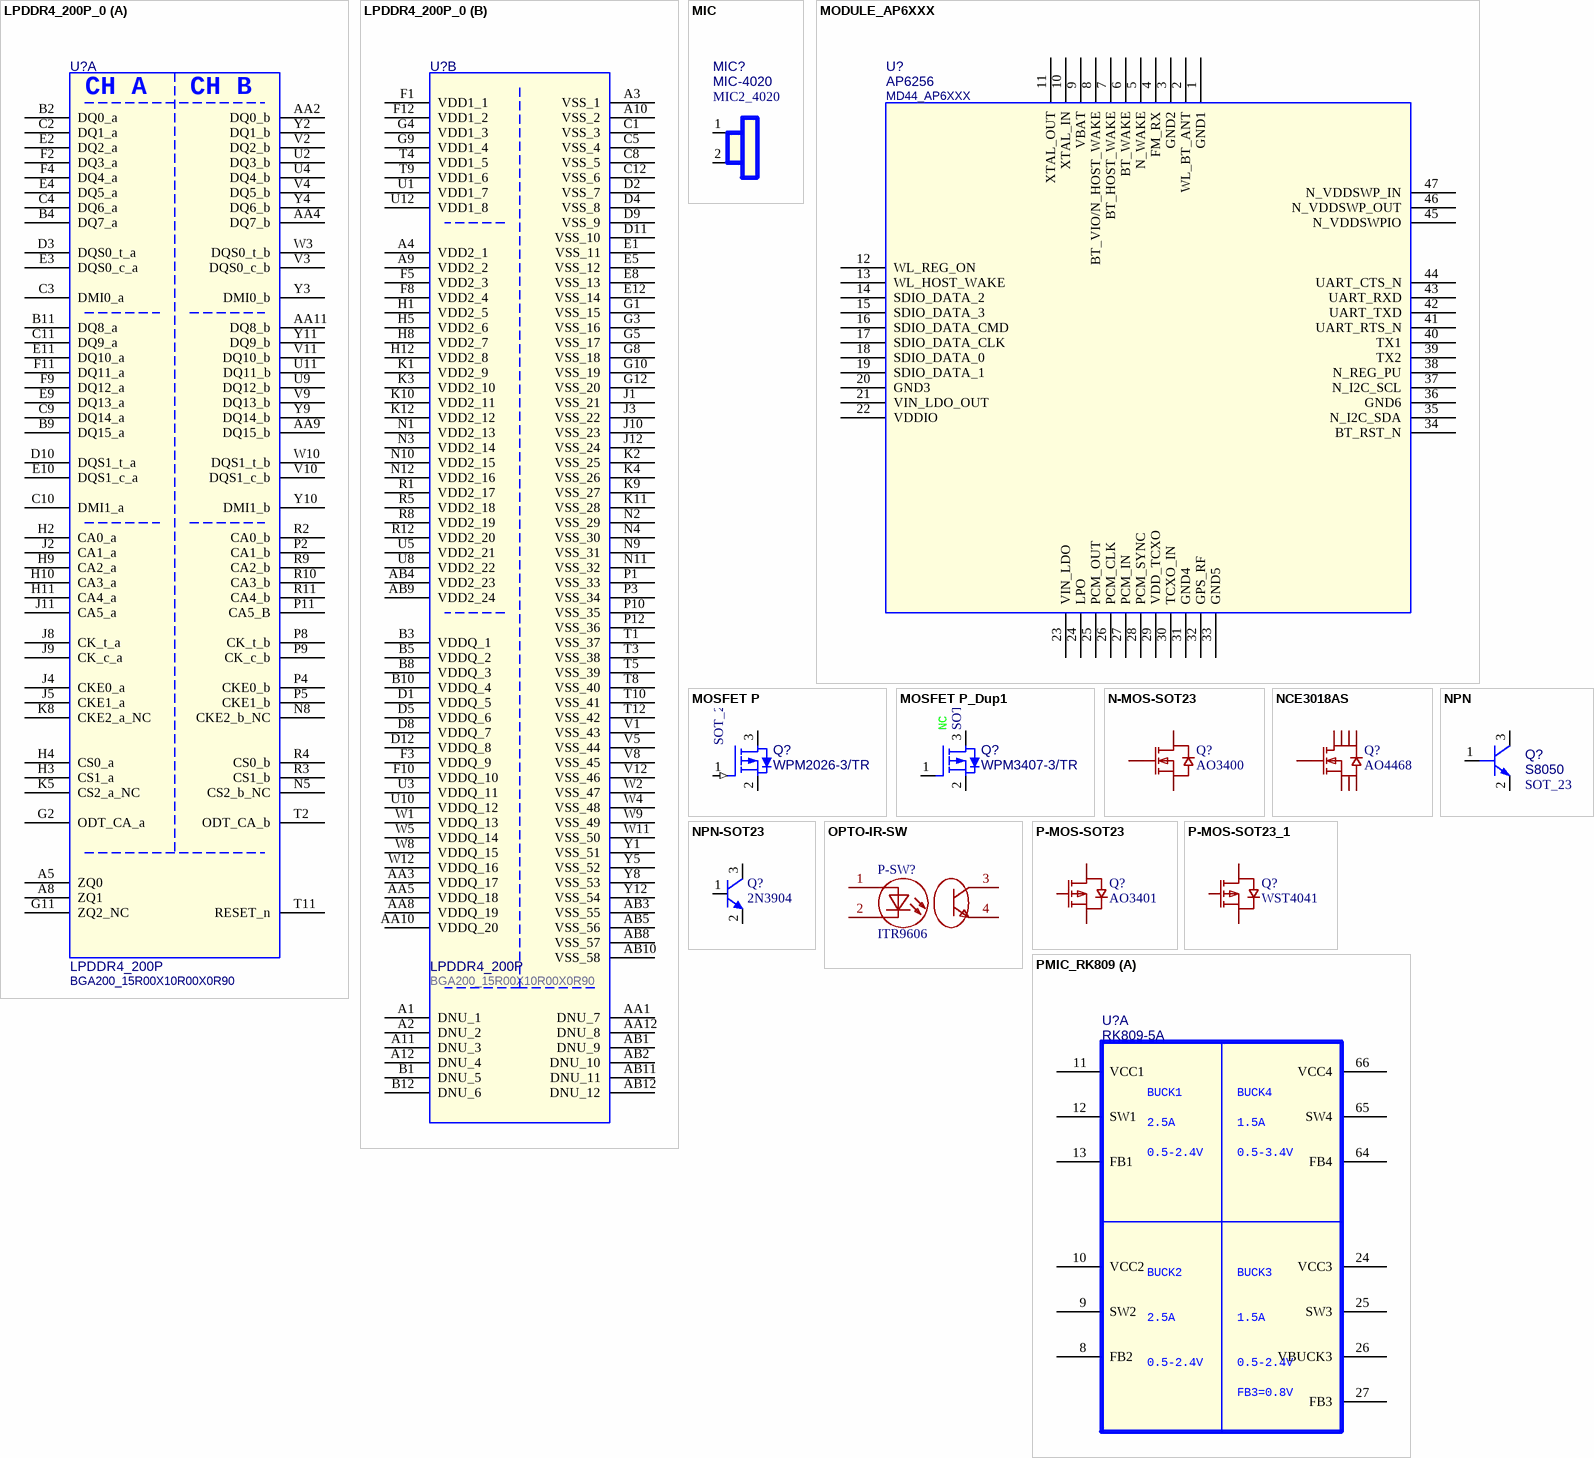
[diagram p10: symbols LPDDR4_200P_0 to PMIC_RK809]

## LPDDR4_200P_0
designator U?, comment LPDDR4_200P  PCB Footprint: BGA200_15R00X10R00X0R90
Part Reference: U3000; Value: LPDDR4_200P; ClassName: RK
footprint BGA200_15R00X10R00X0R90
part A pins: A5 ZQ0, A8 ZQ1, AA2 DQ0_b, AA4 DQ7_b, AA9 DQ15_b, AA11 DQ8_b, B2 DQ0_a, B4 DQ7_a, B9 DQ15_a, B11 DQ8_a, C2 DQ1_a, C3 DMI0_a, C4 DQ6_a, C9 DQ14_a, C10 DMI1_a, C11 DQ9_a, D3 DQS0_t_a, D10 DQS1_t_a, E2 DQ2_a, E3 DQS0_c_a, E4 DQ5_a, E9 DQ13_a, E10 DQS1_c_a, E11 DQ10_a, F2 DQ3_a, F4 DQ4_a, F9 DQ12_a, F11 DQ11_a, G2 ODT_CA_a, G11 ZQ2_NC, H2 CA0_a, H3 CS1_a, H4 CS0_a, H9 CA2_a, H10 CA3_a, H11 CA4_a, J2 CA1_a, J4 CKE0_a, J5 CKE1_a, J8 CK_t_a, J9 CK_c_a, J11 CA5_a, K5 CS2_a_NC, K8 CKE2_a_NC, N5 CS2_b_NC, N8 CKE2_b_NC, P2 CA1_b, P4 CKE0_b, P5 CKE1_b, P8 CK_t_b, P9 CK_c_b, P11 CA5_B, R2 CA0_b, R3 CS1_b, R4 CS0_b, R9 CA2_b, R10 CA3_b, R11 CA4_b, T2 ODT_CA_b, T11 RESET_n, U2 DQ3_b, U4 DQ4_b, U9 DQ12_b, U11 DQ11_b, V2 DQ2_b, V3 DQS0_c_b, V4 DQ5_b, V9 DQ13_b, V10 DQS1_c_b, V11 DQ10_b, W3 DQS0_t_b, W10 DQS1_t_b, Y2 DQ1_b, Y3 DMI0_b, Y4 DQ6_b, Y9 DQ14_b, Y10 DMI1_b, Y11 DQ9_b
part B pins: A1 DNU_1, A2 DNU_2, A3 VSS_1 (power), A4 VDD2_1 (power), A9 VDD2_2 (power), A10 VSS_2 (power), A11 DNU_3, A12 DNU_4, AA1 DNU_7, AA3 VDDQ_17 (power), AA5 VDDQ_18 (power), AA8 VDDQ_19 (power), AA10 VDDQ_20 (power), AA12 DNU_8, AB1 DNU_9, AB2 DNU_10, AB3 VSS_55 (power), AB4 VDD2_23 (power), AB5 VSS_56 (power), AB8 VSS_57 (power), AB9 VDD2_24 (power), AB10 VSS_58 (power), AB11 DNU_11, AB12 DNU_12, B1 DNU_5, B3 VDDQ_1 (power), B5 VDDQ_2 (power), B8 VDDQ_3 (power), B10 VDDQ_4 (power), B12 DNU_6, C1 VSS_3 (power), C5 VSS_4 (power), C8 VSS_5 (power), C12 VSS_6 (power), D1 VDDQ_5 (power), D2 VSS_7 (power), D4 VSS_8 (power), D5 VDDQ_6 (power), D8 VDDQ_7 (power), D9 VSS_9 (power), D11 VSS_10 (power), D12 VDDQ_8 (power), E1 VSS_11 (power), E5 VSS_12 (power), E8 VSS_13 (power), E12 VSS_14 (power), F1 VDD1_1 (power), F3 VDDQ_9 (power), F5 VDD2_3 (power), F8 VDD2_4 (power), F10 VDDQ_10 (power), F12 VDD1_2 (power), G1 VSS_15 (power), G3 VSS_16 (power), G4 VDD1_3 (power), G5 VSS_17 (power), G8 VSS_18 (power), G9 VDD1_4 (power), G10 VSS_19 (power), G12 VSS_20 (power), H1 VDD2_5 (power), H5 VDD2_6 (power), H8 VDD2_7 (power), H12 VDD2_8 (power), J1 VSS_21 (power), J3 VSS_22 (power), J10 VSS_23 (power), J12 VSS_24 (power), K1 VDD2_9 (power), K2 VSS_25 (power), K3 VDD2_10 (power), K4 VSS_26 (power), K9 VSS_27 (power), K10 VDD2_11 (power), K11 VSS_28 (power), K12 VDD2_12 (power), N1 VDD2_13 (power), N2 VSS_29 (power), N3 VDD2_14 (power), N4 VSS_30 (power), N9 VSS_31 (power), N10 VDD2_15 (power), N11 VSS_32 (power), N12 VDD2_16 (power), P1 VSS_33 (power), P3 VSS_34 (power), P10 VSS_35 (power), P12 VSS_36 (power), R1 VDD2_17 (power), R5 VDD2_18 (power), R8 VDD2_19 (power), R12 VDD2_20 (power), T1 VSS_37 (power), T3 VSS_38 (power), T4 VDD1_5 (power), T5 VSS_39 (power), T8 VSS_40 (power), T9 VDD1_6 (power), T10 VSS_41 (power), T12 VSS_42 (power), U1 VDD1_7 (power), U3 VDDQ_11 (power), U5 VDD2_21 (power), U8 VDD2_22 (power), U10 VDDQ_12 (power), U12 VDD1_8 (power), V1 VSS_43 (power), V5 VSS_44 (power), V8 VSS_45 (power), V12 VSS_46 (power), W1 VDDQ_13 (power), W2 VSS_47 (power), W4 VSS_48 (power), W5 VDDQ_14 (power), W8 VDDQ_15 (power), W9 VSS_49 (power), W11 VSS_50 (power), W12 VDDQ_16 (power), Y1 VSS_51 (power), Y5 VSS_52 (power), Y8 VSS_53 (power), Y12 VSS_54 (power)
part A text: CH A; CH B

## MIC
designator MIC?, comment MIC-4020  PCB Footprint: MIC2_4020
mic 咪头; Part Reference: MIC7001; Manufacturer: 待更新; Priority: A; Value: MIC-4020; RK PN: MIC; Part Type: MIC; Manufacturer Part Number: MIC-4020; Created by: JJJ
footprint MIC2_4020
footprint MIC-SMD_BD4.0-4013_SMDA
pins: 1, 2

## MODULE_AP6XXX
designator U?, comment AP6256  PCB Footprint: MD44_AP6XXX
WiFi 802.11b/g/n + BT4.0; Part Reference: U6100; Manufacturer PN: RL-SM02BD; Manufacturer: RF-LINK(博鹏发); Priority: A; Value: AP6256; Created by: JJJ; Part Type: module; RK PN: RL-SM02BD
footprint QFN-44_L12.0-W12.0-P0.90-TL_AP6256
pins: 1 GND1, 2 WL_BT_ANT, 3 GND2, 4 FM_RX, 5 N_WAKE, 6 BT_WAKE, 7 BT_HOST_WAKE, 8 BT_VIO/N_HOST_WAKE, 9 VBAT, 10 XTAL_IN, 11 XTAL_OUT, 12 WL_REG_ON, 13 WL_HOST_WAKE, 14 SDIO_DATA_2, 15 SDIO_DATA_3, 16 SDIO_DATA_CMD, 17 SDIO_DATA_CLK, 18 SDIO_DATA_0, 19 SDIO_DATA_1, 20 GND3, 21 VIN_LDO_OUT, 22 VDDIO, 23 VIN_LDO, 24 LPO, 25 PCM_OUT, 26 PCM_CLK, 27 PCM_IN, 28 PCM_SYNC, 29 VDD_TCXO, 30 TCXO_IN, 31 GND4, 32 GPS_RF, 33 GND5, 34 BT_RST_N, 35 N_I2C_SDA, 36 GND6, 37 N_I2C_SCL, 38 N_REG_PU, 39 TX2, 40 TX1, 41 UART_RTS_N, 42 UART_TXD, 43 UART_RXD, 44 UART_CTS_N, 45 N_VDDSWPIO, 46 N_VDDSWP_OUT, 47 N_VDDSWP_IN

## MOSFET P
designator Q?, comment WPM2026-3/TR  PCB Footprint: SOT_23
PMOS,WPM2026-3/TR,SOT_23,Id=3.2A,Vds=20V; Part Reference: Q2200; Manufacturer: WillSemi(韦尔半导体); Priority: A; Id_max: 3.2A; Vgs: ±12V; VDS: 20V; Vgsth: 0.6V; Pd: 0.6W; Value: WPM2026-3/TR; RK PN: WPM2026-3/TR; Part Type: PMOS; Manufacturer PN: WPM2026-3/TR; Created by: JJJ
footprint SOT23
footprint SOT_23
pins: 1 GATE (in), 2 SOURCE, 3 DRAIN

## MOSFET P_Dup1
designator Q?, comment WPM3407-3/TR  PCB Footprint: SOT_23  option: NC
PMOS,WPM3407-3/TR,SOT_23,Id=4.4A,Vds=30V; Part Reference: Q6100; Manufacturer: WillSemi(韦尔半导体); Pd: 0.9W; Vgsth: 2.0V; VDS: 30V; Vgs: ±20V; Id_max: 4.4A; Priority: A; Value: WPM3407-3/TR; Created by: JJJ; Manufacturer PN: WPM3407-3/TR; Part Type: PMOS; RK PN: WPM3407-3/TR
footprint SOT23-3D
footprint SOT_23
pins: 1 GATE, 2 SOURCE, 3 DRAIN

## N-MOS-SOT23
designator Q?, comment AO3400
ManufacturingPartNumber: *; Manufacturer: *; SupplierPartNumber: *; Supplier: *; VoltageRate: *
footprint SOT23-3D
pins: 1 G, 2 S, 3 D

## NCE3018AS
designator Q?, comment AO4468
ManufacturingPartNumber: *; Manufacturer: *; SupplierPartNumber: *; Supplier: *; VoltageRate: *
footprint SOP-8_L4.9-W3.9-P1.27-LS6.0-BL-1
pins: 1 S, 2 S, 3 S, 4 G, 5 D, 6 D, 7 D, 8 D

## NPN
designator Q?, comment S8050  PCB Footprint: SOT_23
S8050,SOT23; Part Reference: Q2201; Manufacturer: 长电; Manufacturer PN: S8050_SOT23; Priority: A; Ic: 0.5A; Vceo: 25V; Pc: 0.3W; Value: S8050; RK PN: S8050; Part Type: NPN; Created by: JJJ
footprint SOT_23
pins: 1 BASE, 2 EMITTER, 3 COLLECTOR

## NPN-SOT23
designator Q?, comment 2N3904
ManufacturingPartNumber: *; Manufacturer: *; SupplierPartNumber: *; Supplier: *; VoltageRate: *
footprint SOT23-3D
pins: 1 B, 2 E, 3 C

## OPTO-IR-SW
designator P-SW?, comment ITR9606
ManufacturingPartNumber: *; Manufacturer: *; SupplierPartNumber: *; Supplier: *; VoltageRate: *
footprint OPTO-TH_4P_ITR9606
pins: 1, 2, 3, 4

## P-MOS-SOT23
designator Q?, comment AO3401
ManufacturingPartNumber: *; Manufacturer: *; SupplierPartNumber: *; Supplier: *; VoltageRate: *
footprint SOT23-3D
pins: 1 G, 2 S, 3 D

## P-MOS-SOT23_1
designator Q?, comment WST4041
ManufacturingPartNumber: *; Manufacturer: *; SupplierPartNumber: *; Supplier: *; VoltageRate: *
footprint SOT23-3D
pins: 1 G, 2 S, 3 D

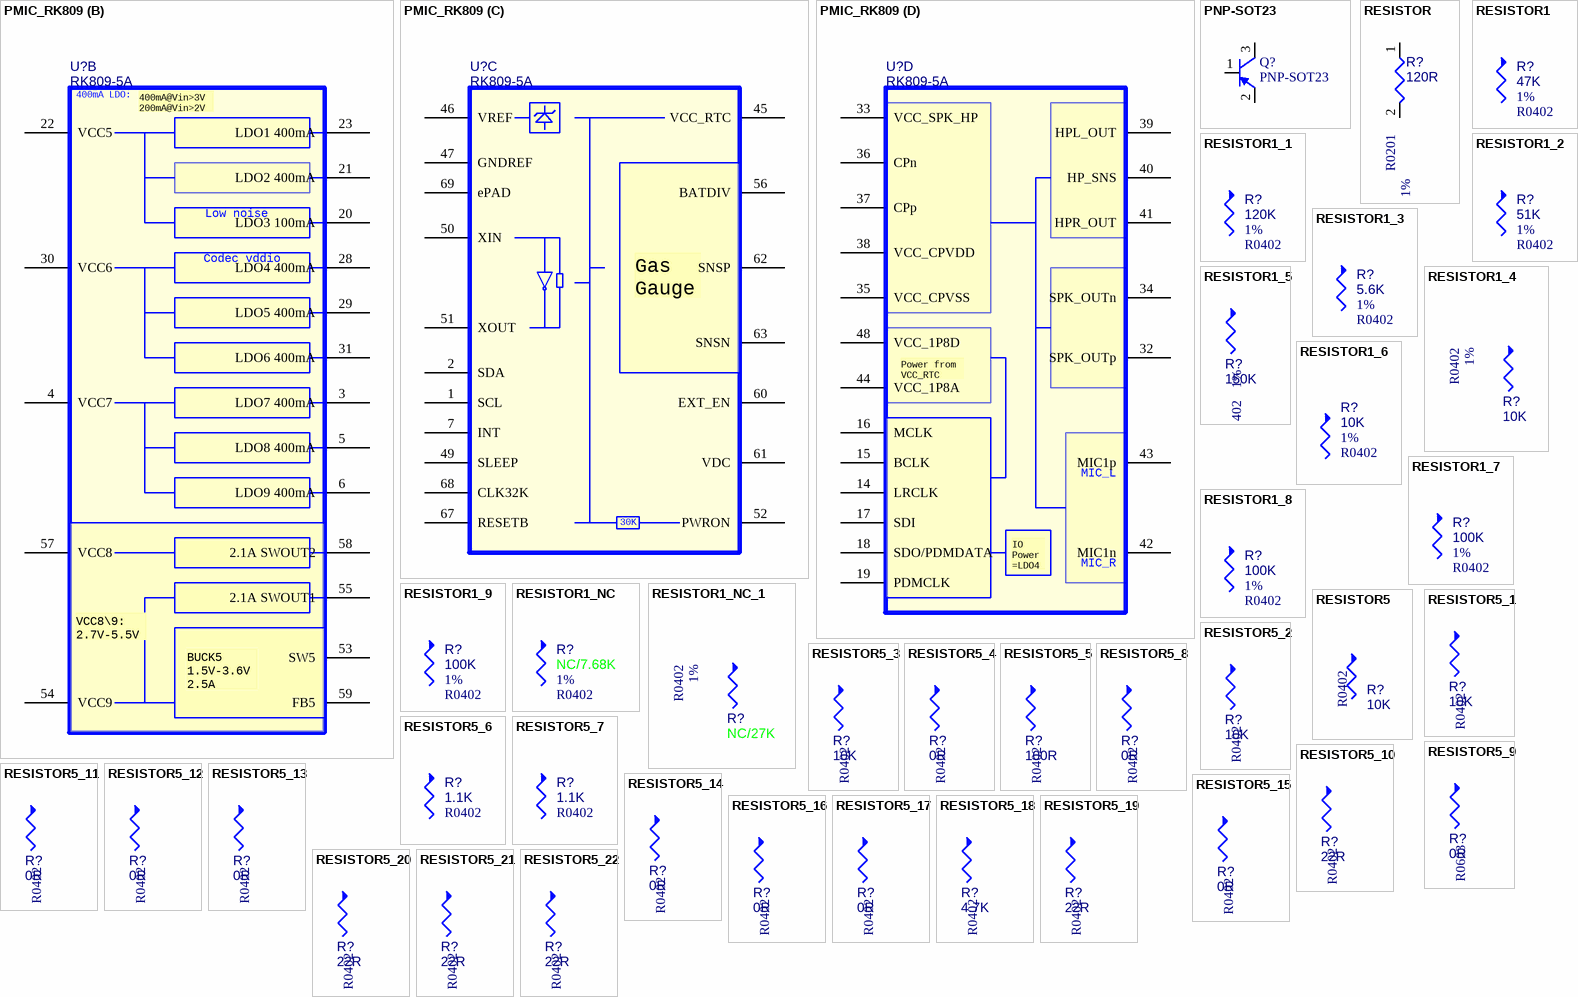
[diagram p11: symbols PMIC_RK809 to RESISTOR5_22]

## PMIC_RK809
designator U?, comment RK809-5A
ROCKCHIP PMIC RK809-5A; Part Reference: U2100; Manufacturer: Rockchip (瑞芯微); Priority: A; RK PN: 998000114; PCB Footprint: QFN68_7R00X7R00X0R80_T; Value: RK809-5A; Created by: JJJ; Manufacturer PN: RK809-5A; Part Type: PMIC
footprint QFN-68_L7.0-W7.0-P0.35-BL-EP5.5
part A pins: 8 FB2, 9 SW2, 10 VCC2, 11 VCC1, 12 SW1, 13 FB1, 24 VCC3, 25 SW3, 26 VBUCK3, 27 FB3, 64 FB4, 65 SW4, 66 VCC4
part B pins: 3 LDO7 400mA, 4 VCC7, 5 LDO8 400mA, 6 LDO9 400mA, 20 LDO3 100mA, 21 LDO2 400mA, 22 VCC5, 23 LDO1 400mA, 28 LDO4 400mA, 29 LDO5 400mA, 30 VCC6, 31 LDO6 400mA, 53 SW5, 54 VCC9, 55 2.1A SWOUT1, 57 VCC8, 58 2.1A SWOUT2, 59 FB5
part C pins: 1 SCL, 2 SDA, 7 INT, 45 VCC_RTC, 46 VREF, 47 GNDREF, 49 SLEEP, 50 XIN, 51 XOUT, 52 PWRON, 56 BATDIV, 60 EXT_EN, 61 VDC, 62 SNSP, 63 SNSN, 67 RESETB, 68 CLK32K, 69 ePAD
part D pins: 14 LRCLK, 15 BCLK, 16 MCLK, 17 SDI, 18 SDO/PDMDATA, 19 PDMCLK, 32 SPK_OUTp, 33 VCC_SPK_HP, 34 SPK_OUTn, 35 VCC_CPVSS, 36 CPn, 37 CPp, 38 VCC_CPVDD, 39 HPL_OUT, 40 HP_SNS, 41 HPR_OUT, 42 MIC1n, 43 MIC1p, 44 VCC_1P8A, 48 VCC_1P8D
part A text: BUCK1; BUCK4; 2.5A; 1.5A; 0.5-2.4V; 0.5-3.4V; BUCK2; BUCK3; FB3=0.8V
part B text: 400mA LDO:; 400mA@Vin>3V / 200mA@Vin>2V /; Low noise; Codec vddio; VCC8\9: / 2.7V-5.5V; BUCK5 / 1.5V-3.6V / 2.5A
part C text: Gas / Gauge; 30K
part D text: Power from / VCC_RTC; MIC_L; IO / Power / =LDO4; MIC_R

## PNP-SOT23
designator Q?
ManufacturingPartNumber: *; Manufacturer: *; SupplierPartNumber: *; Supplier: *; VoltageRate: *
footprint SOT23-3D
pins: 1 B, 2 E, 3 C

## RESISTOR
designator R?, comment 120R  Tolerance: 1%  PCB Footprint: R0201
通用厚膜电阻,120R,+/-1%,R0201,1/20W.; Part Reference: R1101; Manufacturer PN: RC0201FR-07120RL; Manufacturer: YAGEO; Wattage: 1/20W; Priority: A; Value: 120R; Created by: YTL; Part Type: 通用厚膜电阻; RK PN: RC0201FR-07120RL; ClassName: RK
footprint R0402
footprint R0201
pins: 1, 2

## RESISTOR1
designator R?, comment 47K  Tolerance: 1%  PCB Footprint: R0402
通用厚膜电阻,47K,+/-1%,R0402,1/16W.; Part Reference: R2104; Manufacturer PN: RC0402FR-0747KL; Manufacturer: YAGEO; Wattage: 1/16W; Priority: A; RK PN: 901001211; Value: 47K; Created by: YTL; Part Type: 通用厚膜电阻
footprint R0402
pins: 1, 2

## RESISTOR1_1
designator R?, comment 120K  Tolerance: 1%  PCB Footprint: R0402
通用厚膜电阻,120K,+/-1%,R0402,1/16W.; Part Reference: R2106; Manufacturer: YAGEO; Manufacturer PN: RC0402FR-07120KL; RK PN: 901000798; Priority: A; Wattage: 1/16W; Value: 120K; Part Type: 通用厚膜电阻; Created by: YTL
footprint R0402
pins: 1, 2

## RESISTOR1_2
designator R?, comment 51K  Tolerance: 1%  PCB Footprint: R0402
通用厚膜电阻,51K,+/-1%,R0402,1/16W.; Part Reference: R2208; Manufacturer PN: RC0402FR-0751KL; Manufacturer: YAGEO; Wattage: 1/16W; Priority: A; RK PN: 901001253; Value: 51K; Created by: YTL; Part Type: 通用厚膜电阻
footprint R0402
pins: 1, 2

## RESISTOR1_3
designator R?, comment 5.6K  Tolerance: 1%  PCB Footprint: R0402
通用厚膜电阻,5K6,+/-1%,R0402,1/16W.; Part Reference: R2209; Manufacturer PN: RC0402FR-075K6L; Manufacturer: YAGEO; Wattage: 1/16W; Priority: A; RK PN: 901001290; Value: 5.6K; Created by: YTL; Part Type: 通用厚膜电阻
footprint R0402
pins: 1, 2

## RESISTOR1_4
designator R?, comment 10K  Tolerance: 1%  PCB Footprint: R0402
通用厚膜电阻,10K,+/-1%,R0402,1/16W.; Part Reference: R2210; Manufacturer PN: RC0402FR-0710KL; Manufacturer: YAGEO; Wattage: 1/16W; Priority: A; RK PN: 901000777; Value: 10K; Created by: YTL; Part Type: 通用厚膜电阻
footprint R0402
pins: 1, 2

## RESISTOR1_5
designator R?, comment 150K  Tolerance: 1%  PCB Footprint: R0402
通用厚膜电阻,150K,+/-1%,R0402,1/16W.; Part Reference: R2211; Manufacturer PN: RC0402FR-07150KL; Manufacturer: YAGEO; Wattage: 1/16W; Priority: A; RK PN: 901000837; Value: 150K; Created by: YTL; Part Type: 通用厚膜电阻
footprint R0402
pins: 1, 2

## RESISTOR1_6
designator R?, comment 10K  Tolerance: 1%  PCB Footprint: R0402
通用厚膜电阻,10K,+/-1%,R0402,1/16W.; Part Reference: R2212; Manufacturer: YAGEO; Manufacturer PN: RC0402FR-0710KL; RK PN: 901000777; Priority: A; Wattage: 1/16W; Value: 10K; Part Type: 通用厚膜电阻; Created by: YTL
footprint R0402
pins: 1, 2

## RESISTOR1_7
designator R?, comment 100K  Tolerance: 1%  PCB Footprint: R0402
通用厚膜电阻,100K,+/-1%,R0402,1/16W.; Part Reference: R2213; Manufacturer PN: RC0402FR-07100KL; Manufacturer: YAGEO; Wattage: 1/16W; Priority: A; RK PN: 901000766; Value: 100K; Created by: YTL; Part Type: 通用厚膜电阻
footprint R0402
pins: 1, 2

## RESISTOR1_8
designator R?, comment 100K  Tolerance: 1%  PCB Footprint: R0402
通用厚膜电阻,100K,+/-1%,R0402,1/16W.; Part Reference: R2227; Manufacturer PN: RC0402FR-07100KL; Manufacturer: YAGEO; Wattage: 1/16W; Priority: A; RK PN: 901000766; Value: 100K; Created by: YTL; Part Type: 通用厚膜电阻
footprint R0402
pins: 1, 2

## RESISTOR1_9
designator R?, comment 100K  Tolerance: 1%  PCB Footprint: R0402
通用厚膜电阻,100K,+/-1%,R0402,1/16W.; Part Reference: R2230; Manufacturer PN: RC0402FR-07100KL; Manufacturer: YAGEO; Wattage: 1/16W; Priority: A; RK PN: 901000766; Value: 100K; Created by: YTL; Part Type: 通用厚膜电阻
footprint R0402
pins: 1, 2

## RESISTOR1_NC
designator R?, comment NC/7.68K  Tolerance: 1%  PCB Footprint: R0402
通用厚膜电阻,7K68,+/-1%,R0402,1/16W.; Part Reference: R2214; Manufacturer PN: RC0402FR-077K68L; Manufacturer: YAGEO; Optional: X; Wattage: 1/16W; Priority: A; RK PN: 901001379-1; Value: NC/7.68K; Created by: YTL; Part Type: 通用厚膜电阻
footprint R0402
pins: 1, 2

## RESISTOR1_NC_1
designator R?, comment NC/27K  Tolerance: 1%  PCB Footprint: R0402
通用厚膜电阻,27K,+/-1%,R0402,1/16W.; Part Reference: R2215; Manufacturer: YAGEO; Manufacturer PN: RC0402FR-0727KL; RK PN: 901001021-1; Priority: A; Wattage: 1/16W; Optional: X; Value: NC/27K; Part Type: 通用厚膜电阻; Created by: YTL
footprint R0402
pins: 1, 2

## RESISTOR5
designator R?, comment 10K  PCB Footprint: R0402
通用厚膜电阻,10K,+/-5%,R0402,1/16W.; Part Reference: R2245; Manufacturer PN: RC0402JR-0710KL; Manufacturer: YAGEO; Tolerance: 5%; Wattage: 1/16W; Priority: A; RK PN: 901001449; Value: 10K; Created by: YTL; Part Type: 通用厚膜电阻; ClassName: RK
footprint R0402
pins: 1, 2

## RESISTOR5_1
designator R?, comment 10K  PCB Footprint: R0402
通用厚膜电阻,10K,+/-5%,R0402,1/16W.; Part Reference: R4000; Manufacturer PN: RC0402JR-0710KL; Manufacturer: YAGEO; Tolerance: 5%; Wattage: 1/16W; Priority: A; RK PN: 901001449; Value: 10K; Created by: YTL; Part Type: 通用厚膜电阻; ClassName: RK
footprint R0402
pins: 1, 2

## RESISTOR5_2
designator R?, comment 10K  PCB Footprint: R0402
通用厚膜电阻,10K,+/-5%,R0402,1/16W.; Part Reference: R4001; Manufacturer PN: RC0402JR-0710KL; Manufacturer: YAGEO; Tolerance: 5%; Wattage: 1/16W; Priority: A; RK PN: 901001449; Value: 10K; Created by: YTL; Part Type: 通用厚膜电阻; ClassName: RK
footprint R0402
pins: 1, 2

## RESISTOR5_3
designator R?, comment 10K  PCB Footprint: R0402
通用厚膜电阻,10K,+/-5%,R0402,1/16W.; Part Reference: R4002; Manufacturer PN: RC0402JR-0710KL; Manufacturer: YAGEO; Tolerance: 5%; Wattage: 1/16W; Priority: A; RK PN: 901001449; Value: 10K; Created by: YTL; Part Type: 通用厚膜电阻; ClassName: RK
footprint R0402
pins: 1, 2

## RESISTOR5_4
designator R?, comment 0R  PCB Footprint: R0402
通用厚膜电阻,0R,+/-5%,R0402,1/16W.; Part Reference: R4003; Manufacturer PN: RC0402JR-070RL; Manufacturer: YAGEO; Tolerance: 5%; Wattage: 1/16W; Priority: A; RK PN: 901001446; Value: 0R; Created by: YTL; Part Type: 通用厚膜电阻; ClassName: RK
footprint R0402
pins: 1, 2

## RESISTOR5_5
designator R?, comment 100R  PCB Footprint: R0402
通用厚膜电阻,100R,+/-5%,R0402,1/16W.; Part Reference: R7010; Manufacturer: YAGEO; Manufacturer PN: RC0402JR-07100RL; Tolerance: 5%; RK PN: 901001448; Priority: A; Wattage: 1/16W; Value: 100R; Part Type: 通用厚膜电阻; Created by: YTL
footprint R0402
pins: 1, 2

## RESISTOR5_6
designator R?, comment 1.1K  PCB Footprint: R0402
通用厚膜电阻,1K1,+/-5%,R0402,1/16W.; Part Reference: R7014; Manufacturer PN: RC0402JR-071K1L; Manufacturer: YAGEO; Tolerance: 5%; Wattage: 1/16W; Priority: A; RK PN: 901001476; Value: 1.1K; Created by: YTL; Part Type: 通用厚膜电阻
footprint R0402
pins: 1, 2

## RESISTOR5_7
designator R?, comment 1.1K  PCB Footprint: R0402
通用厚膜电阻,1K1,+/-5%,R0402,1/16W.; Part Reference: R7012; Manufacturer: YAGEO; Manufacturer PN: RC0402JR-071K1L; Tolerance: 5%; RK PN: 901001476; Priority: A; Wattage: 1/16W; Value: 1.1K; Part Type: 通用厚膜电阻; Created by: YTL
footprint R0402
pins: 1, 2

## RESISTOR5_8
designator R?, comment 0R  PCB Footprint: R0402
通用厚膜电阻,0R,+/-5%,R0402,1/16W.; Part Reference: R4501; Manufacturer PN: RC0402JR-070RL; Manufacturer: YAGEO; Tolerance: 5%; Wattage: 1/16W; Priority: A; RK PN: 901001446; Value: 0R; Created by: YTL; Part Type: 通用厚膜电阻
footprint R0402
pins: 1, 2

## RESISTOR5_9
designator R?, comment 0R  PCB Footprint: R0603
通用厚膜电阻,0R,+/-5%,R0603,1/10W.; Part Reference: R6100; Manufacturer: YAGEO; Manufacturer PN: RC0603JR-070RL; Tolerance: 5%; RK PN: 901002435; Priority: A; Wattage: 1/10W; Value: 0R; Part Type: 通用厚膜电阻; Created by: YTL
footprint R0402
footprint R0603
pins: 1, 2

## RESISTOR5_10
designator R?, comment 22R  PCB Footprint: R0402
通用厚膜电阻,22R,+/-5%,R0402,1/16W.; Part Reference: R6103; Manufacturer: YAGEO; Manufacturer PN: RC0402JR-0722RL; Tolerance: 5%; RK PN: 901001505; Priority: A; Wattage: 1/16W; Value: 22R; Part Type: 通用厚膜电阻; Created by: YTL
footprint R0402
pins: 1, 2

## RESISTOR5_11
designator R?, comment 0R  PCB Footprint: R0402
通用厚膜电阻,0R,+/-5%,R0402,1/16W.; Part Reference: R6107; Manufacturer: YAGEO; Manufacturer PN: RC0402JR-070RL; Tolerance: 5%; RK PN: 901001446; Priority: A; Wattage: 1/16W; Value: 0R; Part Type: 通用厚膜电阻; Created by: YTL
footprint R0402
pins: 1, 2

## RESISTOR5_12
designator R?, comment 0R  PCB Footprint: R0402
通用厚膜电阻,0R,+/-5%,R0402,1/16W.; Part Reference: R6108; Manufacturer: YAGEO; Manufacturer PN: RC0402JR-070RL; Tolerance: 5%; RK PN: 901001446; Priority: A; Wattage: 1/16W; Value: 0R; Part Type: 通用厚膜电阻; Created by: YTL
footprint R0402
pins: 1, 2

## RESISTOR5_13
designator R?, comment 0R  PCB Footprint: R0402
通用厚膜电阻,0R,+/-5%,R0402,1/16W.; Part Reference: R6109; Manufacturer: YAGEO; Manufacturer PN: RC0402JR-070RL; Tolerance: 5%; RK PN: 901001446; Priority: A; Wattage: 1/16W; Value: 0R; Part Type: 通用厚膜电阻; Created by: YTL
footprint R0402
pins: 1, 2

## RESISTOR5_14
designator R?, comment 0R  PCB Footprint: R0402
通用厚膜电阻,0R,+/-5%,R0402,1/16W.; Part Reference: R6110; Manufacturer: YAGEO; Manufacturer PN: RC0402JR-070RL; Tolerance: 5%; RK PN: 901001446; Priority: A; Wattage: 1/16W; Value: 0R; Part Type: 通用厚膜电阻; Created by: YTL
footprint R0402
pins: 1, 2

## RESISTOR5_15
designator R?, comment 0R  PCB Footprint: R0402
通用厚膜电阻,0R,+/-5%,R0402,1/16W.; Part Reference: R6112; Manufacturer: YAGEO; Manufacturer PN: RC0402JR-070RL; Tolerance: 5%; RK PN: 901001446; Priority: A; Wattage: 1/16W; Value: 0R; Part Type: 通用厚膜电阻; Created by: YTL
footprint R0402
pins: 1, 2

## RESISTOR5_16
designator R?, comment 0R  PCB Footprint: R0402
通用厚膜电阻,0R,+/-5%,R0402,1/16W.; Part Reference: R6113; Manufacturer PN: RC0402JR-070RL; Manufacturer: YAGEO; Tolerance: 5%; Wattage: 1/16W; Priority: A; RK PN: 901001446; Value: 0R; Created by: YTL; Part Type: 通用厚膜电阻
footprint R0402
pins: 1, 2

## RESISTOR5_17
designator R?, comment 0R  PCB Footprint: R0402
通用厚膜电阻,0R,+/-5%,R0402,1/16W.; Part Reference: R6114; Manufacturer PN: RC0402JR-070RL; Manufacturer: YAGEO; Tolerance: 5%; Wattage: 1/16W; Priority: A; RK PN: 901001446; Value: 0R; Created by: YTL; Part Type: 通用厚膜电阻
footprint R0402
pins: 1, 2

## RESISTOR5_18
designator R?, comment 4.7K  PCB Footprint: R0402
通用厚膜电阻,4K7,+/-5%,R0402,1/16W.; Part Reference: R6117; Manufacturer: YAGEO; Manufacturer PN: RC0402JR-074K7L; Tolerance: 5%; RK PN: 901001562; Priority: A; Wattage: 1/16W; Value: 4.7K; Part Type: 通用厚膜电阻; Created by: YTL
footprint R0402
pins: 1, 2

## RESISTOR5_19
designator R?, comment 22R  PCB Footprint: R0402
通用厚膜电阻,22R,+/-5%,R0402,1/16W.; Part Reference: R4201; Manufacturer: YAGEO; Manufacturer PN: RC0402JR-0722RL; Tolerance: 5%; RK PN: 901001505; Priority: A; Wattage: 1/16W; Value: 22R; Part Type: 通用厚膜电阻; Created by: YTL
footprint R0402
pins: 1, 2

## RESISTOR5_20
designator R?, comment 22R  PCB Footprint: R0402
通用厚膜电阻,22R,+/-5%,R0402,1/16W.; Part Reference: R4202; Manufacturer: YAGEO; Manufacturer PN: RC0402JR-0722RL; Tolerance: 5%; RK PN: 901001505; Priority: A; Wattage: 1/16W; Value: 22R; Part Type: 通用厚膜电阻; Created by: YTL
footprint R0402
pins: 1, 2

## RESISTOR5_21
designator R?, comment 22R  PCB Footprint: R0402
通用厚膜电阻,22R,+/-5%,R0402,1/16W.; Part Reference: R4200; Manufacturer: YAGEO; Manufacturer PN: RC0402JR-0722RL; Tolerance: 5%; RK PN: 901001505; Priority: A; Wattage: 1/16W; Value: 22R; Part Type: 通用厚膜电阻; Created by: YTL
footprint R0402
pins: 1, 2

## RESISTOR5_22
designator R?, comment 22R  PCB Footprint: R0402
通用厚膜电阻,22R,+/-5%,R0402,1/16W.; Part Reference: R4203; Manufacturer: YAGEO; Manufacturer PN: RC0402JR-0722RL; Tolerance: 5%; RK PN: 901001505; Priority: A; Wattage: 1/16W; Value: 22R; Part Type: 通用厚膜电阻; Created by: YTL
footprint R0402
pins: 1, 2

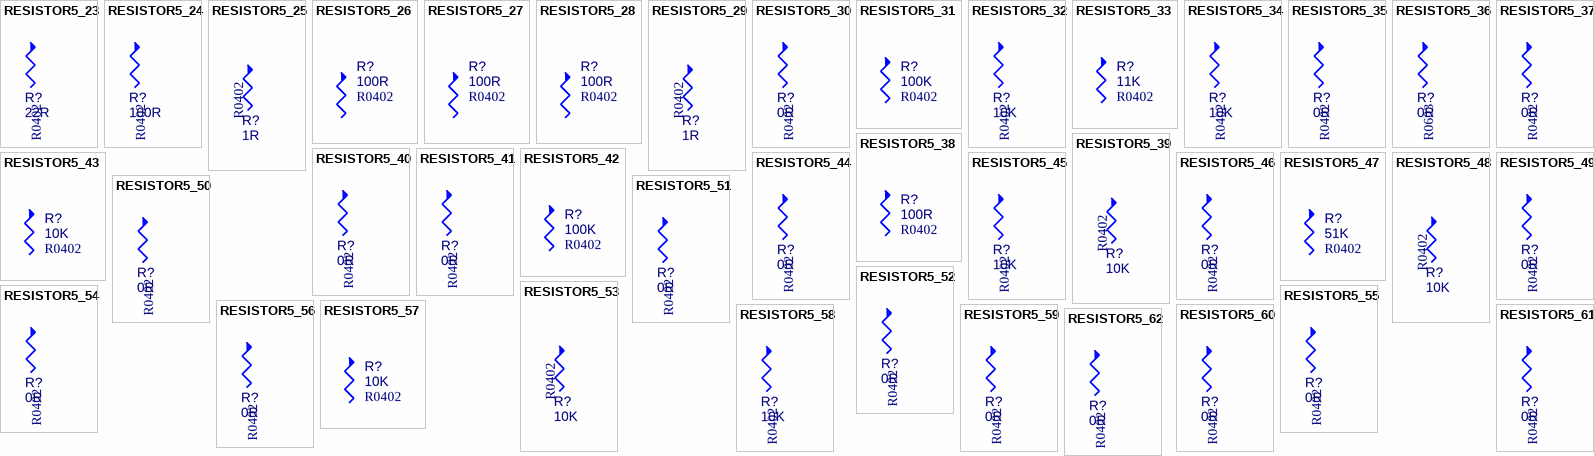
[diagram p12: symbols RESISTOR5_23 to RESISTOR5_62]

## RESISTOR5_23
designator R?, comment 22R  PCB Footprint: R0402
通用厚膜电阻,22R,+/-5%,R0402,1/16W.; Part Reference: R4204; Manufacturer: YAGEO; Manufacturer PN: RC0402JR-0722RL; Tolerance: 5%; RK PN: 901001505; Priority: A; Wattage: 1/16W; Value: 22R; Part Type: 通用厚膜电阻; Created by: YTL
footprint R0402
pins: 1, 2

## RESISTOR5_24
designator R?, comment 100R  PCB Footprint: R0402
通用厚膜电阻,100R,+/-5%,R0402,1/16W.; Part Reference: R4205; Manufacturer PN: RC0402JR-07100RL; Manufacturer: YAGEO; Tolerance: 5%; Wattage: 1/16W; Priority: A; RK PN: 901001448; Value: 100R; Created by: YTL; Part Type: 通用厚膜电阻
footprint R0402
pins: 1, 2

## RESISTOR5_25
designator R?, comment 1R  PCB Footprint: R0402
通用厚膜电阻,1R,+/-5%,R0402,1/16W.; Part Reference: R2100; Manufacturer PN: RC0402JR-071RL; Manufacturer: YAGEO; Tolerance: 5%; Wattage: 1/16W; Priority: A; RK PN: 901001495; Value: 1R; Created by: YTL; Part Type: 通用厚膜电阻
footprint R0402
pins: 1, 2

## RESISTOR5_26
designator R?, comment 100R  PCB Footprint: R0402
通用厚膜电阻,100R,+/-5%,R0402,1/16W.; Part Reference: R2101; Manufacturer PN: RC0402JR-07100RL; Manufacturer: YAGEO; Tolerance: 5%; Wattage: 1/16W; Priority: A; RK PN: 901001448; Value: 100R; Created by: YTL; Part Type: 通用厚膜电阻
footprint R0402
pins: 1, 2

## RESISTOR5_27
designator R?, comment 100R  PCB Footprint: R0402
通用厚膜电阻,100R,+/-5%,R0402,1/16W.; Part Reference: R2102; Manufacturer PN: RC0402JR-07100RL; Manufacturer: YAGEO; Tolerance: 5%; Wattage: 1/16W; Priority: A; RK PN: 901001448; Value: 100R; Created by: YTL; Part Type: 通用厚膜电阻
footprint R0402
pins: 1, 2

## RESISTOR5_28
designator R?, comment 100R  PCB Footprint: R0402
通用厚膜电阻,100R,+/-5%,R0402,1/16W.; Part Reference: R2103; Manufacturer PN: RC0402JR-07100RL; Manufacturer: YAGEO; Tolerance: 5%; Wattage: 1/16W; Priority: A; RK PN: 901001448; Value: 100R; Created by: YTL; Part Type: 通用厚膜电阻
footprint R0402
pins: 1, 2

## RESISTOR5_29
designator R?, comment 1R  PCB Footprint: R0402
通用厚膜电阻,1R,+/-5%,R0402,1/16W.; Part Reference: R2105; Manufacturer PN: RC0402JR-071RL; Manufacturer: YAGEO; Tolerance: 5%; Wattage: 1/16W; Priority: A; RK PN: 901001495; Value: 1R; Created by: YTL; Part Type: 通用厚膜电阻
footprint R0402
pins: 1, 2

## RESISTOR5_30
designator R?, comment 0R  PCB Footprint: R0402
通用厚膜电阻,0R,+/-5%,R0402,1/16W.; Part Reference: R2107; Manufacturer PN: RC0402JR-070RL; Manufacturer: YAGEO; Tolerance: 5%; Wattage: 1/16W; Priority: A; RK PN: 901001446; Value: 0R; Created by: YTL; Part Type: 通用厚膜电阻
footprint R0402
pins: 1, 2

## RESISTOR5_31
designator R?, comment 100K  PCB Footprint: R0402
通用厚膜电阻,100K,+/-5%,R0402,1/16W.; Part Reference: R2109; Manufacturer: YAGEO; Manufacturer PN: RC0402JR-07100KL; Tolerance: 5%; RK PN: 901001447; Priority: A; Wattage: 1/16W; Value: 100K; Part Type: 通用厚膜电阻; Created by: YTL
footprint R0402
pins: 1, 2

## RESISTOR5_32
designator R?, comment 10K  PCB Footprint: R0402
通用厚膜电阻,10K,+/-5%,R0402,1/16W.; Part Reference: R2110; Manufacturer PN: RC0402JR-0710KL; Manufacturer: YAGEO; Tolerance: 5%; Wattage: 1/16W; Priority: A; RK PN: 901001449; Value: 10K; Created by: YTL; Part Type: 通用厚膜电阻
footprint R0402
pins: 1, 2

## RESISTOR5_33
designator R?, comment 11K  PCB Footprint: R0402
通用厚膜电阻,11K,+/-5%,R0402,1/16W.; Part Reference: R2111; Manufacturer: YAGEO; Manufacturer PN: RC0402JR-0711KL; Tolerance: 5%; RK PN: 901001454; Priority: A; Wattage: 1/16W; Value: 11K; Part Type: 通用厚膜电阻; Created by: YTL
footprint R0402
pins: 1, 2

## RESISTOR5_34
designator R?, comment 10K  PCB Footprint: R0402
通用厚膜电阻,10K,+/-5%,R0402,1/16W.; Part Reference: R2112; Manufacturer PN: RC0402JR-0710KL; Manufacturer: YAGEO; Tolerance: 5%; Wattage: 1/16W; Priority: A; RK PN: 901001449; Value: 10K; Created by: YTL; Part Type: 通用厚膜电阻
footprint R0402
pins: 1, 2

## RESISTOR5_35
designator R?, comment 0R  PCB Footprint: R0402
通用厚膜电阻,0R,+/-5%,R0402,1/16W.; Part Reference: R2201; Manufacturer: YAGEO; Manufacturer PN: RC0402JR-070RL; Tolerance: 5%; RK PN: 901001446; Priority: A; Wattage: 1/16W; Value: 0R; Part Type: 通用厚膜电阻; Created by: YTL
footprint R0402
pins: 1, 2

## RESISTOR5_36
designator R?, comment 0R  PCB Footprint: R0603
通用厚膜电阻,0R,+/-5%,R0603,1/10W.; Part Reference: R2204; Manufacturer PN: RC0603JR-070RL; Manufacturer: YAGEO; Tolerance: 5%; Wattage: 1/10W; Priority: A; RK PN: 901002435; Value: 0R; Created by: YTL; Part Type: 通用厚膜电阻
footprint R0402
footprint R0603
pins: 1, 2

## RESISTOR5_37
designator R?, comment 0R  PCB Footprint: R0402
通用厚膜电阻,0R,+/-5%,R0402,1/16W.; Part Reference: R2205; Manufacturer PN: RC0402JR-070RL; Manufacturer: YAGEO; Tolerance: 5%; Wattage: 1/16W; Priority: A; RK PN: 901001446; Value: 0R; Created by: YTL; Part Type: 通用厚膜电阻
footprint R0402
pins: 1, 2

## RESISTOR5_38
designator R?, comment 100R  PCB Footprint: R0402
通用厚膜电阻,100R,+/-5%,R0402,1/16W.; Part Reference: R2207; Manufacturer PN: RC0402JR-07100RL; Manufacturer: YAGEO; Tolerance: 5%; Wattage: 1/16W; Priority: A; RK PN: 901001448; Value: 100R; Created by: YTL; Part Type: 通用厚膜电阻
footprint R0402
pins: 1, 2

## RESISTOR5_39
designator R?, comment 10K  PCB Footprint: R0402
通用厚膜电阻,10K,+/-5%,R0402,1/16W.; Part Reference: R2206; Manufacturer PN: RC0402JR-0710KL; Manufacturer: YAGEO; Tolerance: 5%; Wattage: 1/16W; Priority: A; RK PN: 901001449; Value: 10K; Created by: YTL; Part Type: 通用厚膜电阻
footprint R0402
pins: 1, 2

## RESISTOR5_40
designator R?, comment 0R  PCB Footprint: R0402
通用厚膜电阻,0R,+/-5%,R0402,1/16W.; Part Reference: R2217; Manufacturer: YAGEO; Manufacturer PN: RC0402JR-070RL; Tolerance: 5%; RK PN: 901001446; Priority: A; Wattage: 1/16W; Value: 0R; Part Type: 通用厚膜电阻; Created by: YTL
footprint R0402
pins: 1, 2

## RESISTOR5_41
designator R?, comment 0R  PCB Footprint: R0402
通用厚膜电阻,0R,+/-5%,R0402,1/16W.; Part Reference: R2216; Manufacturer PN: RC0402JR-070RL; Manufacturer: YAGEO; Tolerance: 5%; Wattage: 1/16W; Priority: A; RK PN: 901001446; Value: 0R; Created by: YTL; Part Type: 通用厚膜电阻
footprint R0402
pins: 1, 2